# Altium schematic symbol library MCU_Texas_MSP430.SchLib: 361 symbols (part 6 of 9)
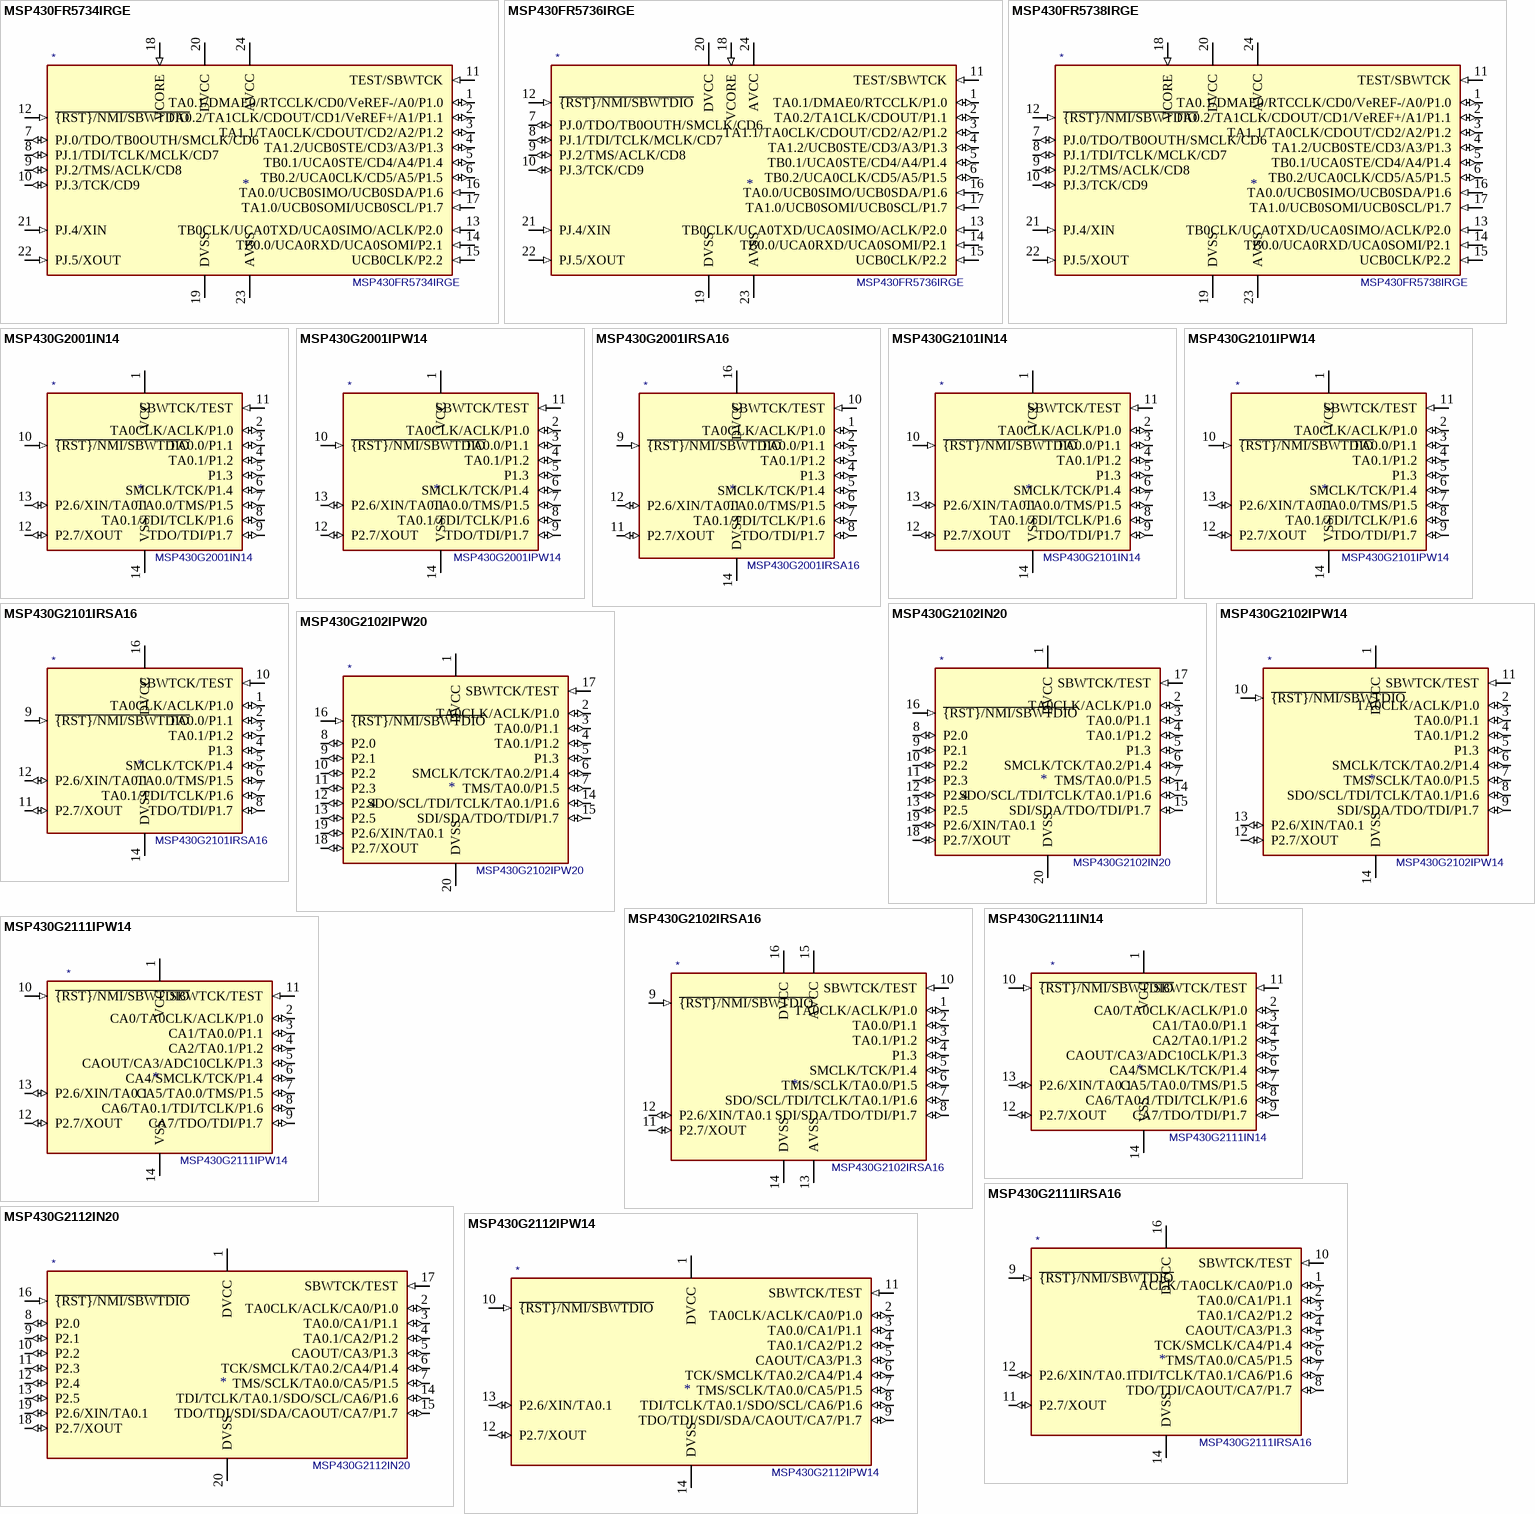
[diagram p39: symbols MSP430FR5734IRGE to MSP430G2112IPW14]

## MSP430G2001IN14
designator *  value MSP430G2001IN14
ki_keywords: TI MSP430 16-bit mixed signal microcontroller; ki_description: 512B Flash, 128B RAM, DIP-14; ki_fp_filters: DIP*W7.62mm*; Footprint: Package_DIP:DIP-14_W7.62mm; Supplier: http://www.ti.com/lit/ds/symlink/msp430g2001.pdf
footprint DIP-14_W7.62mm
pins: 1 VCC (power), 2 TA0CLK/ACLK/P1.0 (io), 3 TA0.0/P1.1 (io), 4 TA0.1/P1.2 (io), 5 P1.3 (io), 6 SMCLK/TCK/P1.4 (io), 7 TA0.0/TMS/P1.5 (io), 8 TA0.1/TDI/TCLK/P1.6 (io), 9 TDO/TDI/P1.7 (io), 10 ~{{RST}/NMI/SBWTDIO} (in), 11 SBWTCK/TEST (in), 12 P2.7/XOUT (io), 13 P2.6/XIN/TA0.1 (io), 14 VSS (power)

## MSP430G2001IPW14
designator *  value MSP430G2001IPW14
ki_keywords: TI MSP430 16-bit mixed signal microcontroller; ki_description: 512B Flash, 128B RAM, TSSOP-14; ki_fp_filters: TSSOP*4.4x5mm*P0.65mm*; Footprint: Package_SO:TSSOP-14_4.4x5mm_P0.65mm; Supplier: http://www.ti.com/lit/ds/symlink/msp430g2001.pdf
footprint TSSOP-14_4.4x5mm_P0.65mm
pins: 1 VCC (power), 2 TA0CLK/ACLK/P1.0 (io), 3 TA0.0/P1.1 (io), 4 TA0.1/P1.2 (io), 5 P1.3 (io), 6 SMCLK/TCK/P1.4 (io), 7 TA0.0/TMS/P1.5 (io), 8 TA0.1/TDI/TCLK/P1.6 (io), 9 TDO/TDI/P1.7 (io), 10 ~{{RST}/NMI/SBWTDIO} (in), 11 SBWTCK/TEST (in), 12 P2.7/XOUT (io), 13 P2.6/XIN/TA0.1 (io), 14 VSS (power)

## MSP430G2001IRSA16
designator *  value MSP430G2001IRSA16
ki_keywords: TI MSP430 16-bit mixed signal microcontroller; ki_description: 512B Flash, 128B RAM, QFN-16; ki_fp_filters: Texas*S?PVQFN*; Footprint: Package_DFN_QFN:Texas_S-PVQFN-N16_EP2.7x2.7mm; Supplier: http://www.ti.com/lit/ds/symlink/msp430g2001.pdf
footprint Texas_S-PVQFN-N16_EP2.7x2.7mm
pins: 1 TA0CLK/ACLK/P1.0 (io), 2 TA0.0/P1.1 (io), 3 TA0.1/P1.2 (io), 4 P1.3 (io), 5 SMCLK/TCK/P1.4 (io), 6 TA0.0/TMS/P1.5 (io), 7 TA0.1/TDI/TCLK/P1.6 (io), 8 TDO/TDI/P1.7 (io), 9 ~{{RST}/NMI/SBWTDIO} (in), 10 SBWTCK/TEST (in), 11 P2.7/XOUT (io), 12 P2.6/XIN/TA0.1 (io), 14 DVSS (power), 16 DVCC (power)

## MSP430G2101IN14
designator *  value MSP430G2101IN14
ki_keywords: TI MSP430 16-bit mixed signal microcontroller; ki_description: 1kB Flash, 128B RAM, DIP-14; ki_fp_filters: DIP*W7.62mm*; Footprint: Package_DIP:DIP-14_W7.62mm; Supplier: http://www.ti.com/lit/ds/symlink/msp430g2101.pdf
footprint DIP-14_W7.62mm
pins: 1 VCC (power), 2 TA0CLK/ACLK/P1.0 (io), 3 TA0.0/P1.1 (io), 4 TA0.1/P1.2 (io), 5 P1.3 (io), 6 SMCLK/TCK/P1.4 (io), 7 TA0.0/TMS/P1.5 (io), 8 TA0.1/TDI/TCLK/P1.6 (io), 9 TDO/TDI/P1.7 (io), 10 ~{{RST}/NMI/SBWTDIO} (in), 11 SBWTCK/TEST (in), 12 P2.7/XOUT (io), 13 P2.6/XIN/TA0.1 (io), 14 VSS (power)

## MSP430G2101IPW14
designator *  value MSP430G2101IPW14
ki_keywords: TI MSP430 16-bit mixed signal microcontroller; ki_description: 1kB Flash, 128B RAM, TSSOP-14; ki_fp_filters: TSSOP*4.4x5mm*P0.65mm*; Footprint: Package_SO:TSSOP-14_4.4x5mm_P0.65mm; Supplier: http://www.ti.com/lit/ds/symlink/msp430g2101.pdf
footprint TSSOP-14_4.4x5mm_P0.65mm
pins: 1 VCC (power), 2 TA0CLK/ACLK/P1.0 (io), 3 TA0.0/P1.1 (io), 4 TA0.1/P1.2 (io), 5 P1.3 (io), 6 SMCLK/TCK/P1.4 (io), 7 TA0.0/TMS/P1.5 (io), 8 TA0.1/TDI/TCLK/P1.6 (io), 9 TDO/TDI/P1.7 (io), 10 ~{{RST}/NMI/SBWTDIO} (in), 11 SBWTCK/TEST (in), 12 P2.7/XOUT (io), 13 P2.6/XIN/TA0.1 (io), 14 VSS (power)

## MSP430G2101IRSA16
designator *  value MSP430G2101IRSA16
ki_keywords: TI MSP430 16-bit mixed signal microcontroller; ki_description: 1kB Flash, 128B RAM, QFN-16; ki_fp_filters: Texas*S?PVQFN*; Footprint: Package_DFN_QFN:Texas_S-PVQFN-N16_EP2.7x2.7mm; Supplier: http://www.ti.com/lit/ds/symlink/msp430g2101.pdf
footprint Texas_S-PVQFN-N16_EP2.7x2.7mm
pins: 1 TA0CLK/ACLK/P1.0 (io), 2 TA0.0/P1.1 (io), 3 TA0.1/P1.2 (io), 4 P1.3 (io), 5 SMCLK/TCK/P1.4 (io), 6 TA0.0/TMS/P1.5 (io), 7 TA0.1/TDI/TCLK/P1.6 (io), 8 TDO/TDI/P1.7 (io), 9 ~{{RST}/NMI/SBWTDIO} (in), 10 SBWTCK/TEST (in), 11 P2.7/XOUT (io), 12 P2.6/XIN/TA0.1 (io), 14 DVSS (power), 16 DVCC (power)

## MSP430G2102IN20
designator *  value MSP430G2102IN20
ki_keywords: TI MSP430 16-bit mixed signal microcontroller; ki_description: 1kB Flash, 128B RAM, DIP-20; ki_fp_filters: DIP*W7.62mm*; Footprint: Package_DIP:DIP-20_W7.62mm; Supplier: http://www.ti.com/lit/ds/symlink/msp430g2102.pdf
footprint DIP-20_W7.62mm
pins: 1 DVCC (power), 2 TA0CLK/ACLK/P1.0 (io), 3 TA0.0/P1.1 (io), 4 TA0.1/P1.2 (io), 5 P1.3 (io), 6 SMCLK/TCK/TA0.2/P1.4 (io), 7 TMS/TA0.0/P1.5 (io), 8 P2.0 (io), 9 P2.1 (io), 10 P2.2 (io), 11 P2.3 (io), 12 P2.4 (io), 13 P2.5 (io), 14 SDO/SCL/TDI/TCLK/TA0.1/P1.6 (io), 15 SDI/SDA/TDO/TDI/P1.7 (io), 16 ~{{RST}/NMI/SBWTDIO} (in), 17 SBWTCK/TEST (in), 18 P2.7/XOUT (io), 19 P2.6/XIN/TA0.1 (io), 20 DVSS (power)

## MSP430G2102IPW14
designator *  value MSP430G2102IPW14
ki_keywords: TI MSP430 16-bit mixed signal microcontroller; ki_description: 1kB Flash, 128B RAM, TSSOP-14; ki_fp_filters: TSSOP*4.4x5mm*P0.65mm*; Footprint: Package_SO:TSSOP-14_4.4x5mm_P0.65mm; Supplier: http://www.ti.com/lit/ds/symlink/msp430g2102.pdf
footprint TSSOP-14_4.4x5mm_P0.65mm
pins: 1 DVCC (power), 2 TA0CLK/ACLK/P1.0 (io), 3 TA0.0/P1.1 (io), 4 TA0.1/P1.2 (io), 5 P1.3 (io), 6 SMCLK/TCK/TA0.2/P1.4 (io), 7 TMS/SCLK/TA0.0/P1.5 (io), 8 SDO/SCL/TDI/TCLK/TA0.1/P1.6 (io), 9 SDI/SDA/TDO/TDI/P1.7 (io), 10 ~{{RST}/NMI/SBWTDIO} (in), 11 SBWTCK/TEST (in), 12 P2.7/XOUT (io), 13 P2.6/XIN/TA0.1 (io), 14 DVSS (power)

## MSP430G2102IPW20
designator *  value MSP430G2102IPW20
ki_keywords: TI MSP430 16-bit mixed signal microcontroller; ki_description: 1kB Flash, 128B RAM, TSSOP-20; ki_fp_filters: TSSOP*4.4x6.5mm*P0.65mm*; Footprint: Package_SO:TSSOP-20_4.4x6.5mm_P0.65mm; Supplier: http://www.ti.com/lit/ds/symlink/msp430g2102.pdf
footprint TSSOP-20_4.4x6.5mm_P0.65mm
pins: 1 DVCC (power), 2 TA0CLK/ACLK/P1.0 (io), 3 TA0.0/P1.1 (io), 4 TA0.1/P1.2 (io), 5 P1.3 (io), 6 SMCLK/TCK/TA0.2/P1.4 (io), 7 TMS/TA0.0/P1.5 (io), 8 P2.0 (io), 9 P2.1 (io), 10 P2.2 (io), 11 P2.3 (io), 12 P2.4 (io), 13 P2.5 (io), 14 SDO/SCL/TDI/TCLK/TA0.1/P1.6 (io), 15 SDI/SDA/TDO/TDI/P1.7 (io), 16 ~{{RST}/NMI/SBWTDIO} (in), 17 SBWTCK/TEST (in), 18 P2.7/XOUT (io), 19 P2.6/XIN/TA0.1 (io), 20 DVSS (power)

## MSP430G2102IRSA16
designator *  value MSP430G2102IRSA16
ki_keywords: TI MSP430 16-bit mixed signal microcontroller; ki_description: 1kB Flash, 128B RAM, QFN-16; ki_fp_filters: Texas*S?PVQFN*; Footprint: Package_DFN_QFN:Texas_S-PVQFN-N16_EP2.7x2.7mm; Supplier: http://www.ti.com/lit/ds/symlink/msp430g2102.pdf
footprint Texas_S-PVQFN-N16_EP2.7x2.7mm
pins: 1 TA0CLK/ACLK/P1.0 (io), 2 TA0.0/P1.1 (io), 3 TA0.1/P1.2 (io), 4 P1.3 (io), 5 SMCLK/TCK/P1.4 (io), 6 TMS/SCLK/TA0.0/P1.5 (io), 7 SDO/SCL/TDI/TCLK/TA0.1/P1.6 (io), 8 SDI/SDA/TDO/TDI/P1.7 (io), 9 ~{{RST}/NMI/SBWTDIO} (in), 10 SBWTCK/TEST (in), 11 P2.7/XOUT (io), 12 P2.6/XIN/TA0.1 (io), 13 AVSS (power), 14 DVSS (power), 15 AVCC (power), 16 DVCC (power)

## MSP430G2111IN14
designator *  value MSP430G2111IN14
ki_keywords: TI MSP430 16-bit mixed signal microcontroller; ki_description: 1kB Flash, 128B RAM, DIP-14; ki_fp_filters: TSSOP*4.4x5mm*P0.65mm*; Footprint: Package_SO:TSSOP-14_4.4x5mm_P0.65mm; Supplier: http://www.ti.com/lit/ds/symlink/msp430g2111.pdf
footprint TSSOP-14_4.4x5mm_P0.65mm
pins: 1 VCC (power), 2 CA0/TA0CLK/ACLK/P1.0 (io), 3 CA1/TA0.0/P1.1 (io), 4 CA2/TA0.1/P1.2 (io), 5 CAOUT/CA3/ADC10CLK/P1.3 (io), 6 CA4/SMCLK/TCK/P1.4 (io), 7 CA5/TA0.0/TMS/P1.5 (io), 8 CA6/TA0.1/TDI/TCLK/P1.6 (io), 9 CA7/TDO/TDI/P1.7 (io), 10 ~{{RST}/NMI/SBWTDIO} (in), 11 SBWTCK/TEST (in), 12 P2.7/XOUT (io), 13 P2.6/XIN/TA0.1 (io), 14 VSS (power)

## MSP430G2111IPW14
designator *  value MSP430G2111IPW14
ki_keywords: TI MSP430 16-bit mixed signal microcontroller; ki_description: 1kB Flash, 128B RAM, TSSOP-14; ki_fp_filters: TSSOP*4.4x5mm*P0.65mm*; Footprint: Package_SO:TSSOP-14_4.4x5mm_P0.65mm; Supplier: http://www.ti.com/lit/ds/symlink/msp430g2111.pdf
footprint TSSOP-14_4.4x5mm_P0.65mm
pins: 1 VCC (power), 2 CA0/TA0CLK/ACLK/P1.0 (io), 3 CA1/TA0.0/P1.1 (io), 4 CA2/TA0.1/P1.2 (io), 5 CAOUT/CA3/ADC10CLK/P1.3 (io), 6 CA4/SMCLK/TCK/P1.4 (io), 7 CA5/TA0.0/TMS/P1.5 (io), 8 CA6/TA0.1/TDI/TCLK/P1.6 (io), 9 CA7/TDO/TDI/P1.7 (io), 10 ~{{RST}/NMI/SBWTDIO} (in), 11 SBWTCK/TEST (in), 12 P2.7/XOUT (io), 13 P2.6/XIN/TA0.1 (io), 14 VSS (power)

## MSP430G2111IRSA16
designator *  value MSP430G2111IRSA16
ki_keywords: TI MSP430 16-bit mixed signal microcontroller; ki_description: 1kB Flash, 128B RAM, QFN-16; ki_fp_filters: Texas*S?PVQFN*; Footprint: Package_DFN_QFN:Texas_S-PVQFN-N16_EP2.7x2.7mm; Supplier: http://www.ti.com/lit/ds/symlink/msp430g2111.pdf
footprint Texas_S-PVQFN-N16_EP2.7x2.7mm
pins: 1 ACLK/TA0CLK/CA0/P1.0 (io), 2 TA0.0/CA1/P1.1 (io), 3 TA0.1/CA2/P1.2 (io), 4 CAOUT/CA3/P1.3 (io), 5 TCK/SMCLK/CA4/P1.4 (io), 6 TMS/TA0.0/CA5/P1.5 (io), 7 TDI/TCLK/TA0.1/CA6/P1.6 (io), 8 TDO/TDI/CAOUT/CA7/P1.7 (io), 9 ~{{RST}/NMI/SBWTDIO} (in), 10 SBWTCK/TEST (in), 11 P2.7/XOUT (io), 12 P2.6/XIN/TA0.1 (io), 14 DVSS (power), 16 DVCC (power)

## MSP430G2112IN20
designator *  value MSP430G2112IN20
ki_keywords: TI MSP430 16-bit mixed signal microcontroller; ki_description: 1kB Flash, 128B RAM, DIP-20; ki_fp_filters: DIP*W7.62mm*; Footprint: Package_DIP:DIP-20_W7.62mm; Supplier: http://www.ti.com/lit/ds/symlink/msp430g2112.pdf
footprint DIP-20_W7.62mm
pins: 1 DVCC (power), 2 TA0CLK/ACLK/CA0/P1.0 (io), 3 TA0.0/CA1/P1.1 (io), 4 TA0.1/CA2/P1.2 (io), 5 CAOUT/CA3/P1.3 (io), 6 TCK/SMCLK/TA0.2/CA4/P1.4 (io), 7 TMS/SCLK/TA0.0/CA5/P1.5 (io), 8 P2.0 (io), 9 P2.1 (io), 10 P2.2 (io), 11 P2.3 (io), 12 P2.4 (io), 13 P2.5 (io), 14 TDI/TCLK/TA0.1/SDO/SCL/CA6/P1.6 (io), 15 TDO/TDI/SDI/SDA/CAOUT/CA7/P1.7 (io), 16 ~{{RST}/NMI/SBWTDIO} (in), 17 SBWTCK/TEST (in), 18 P2.7/XOUT (io), 19 P2.6/XIN/TA0.1 (io), 20 DVSS (power)

## MSP430G2112IPW14
designator *  value MSP430G2112IPW14
ki_keywords: TI MSP430 16-bit mixed signal microcontroller; ki_description: 1kB Flash, 128B RAM, TSSOP-14; ki_fp_filters: TSSOP*4.4x5mm*P0.65mm*; Footprint: Package_SO:TSSOP-14_4.4x5mm_P0.65mm; Supplier: http://www.ti.com/lit/ds/symlink/msp430g2112.pdf
footprint TSSOP-14_4.4x5mm_P0.65mm
pins: 1 DVCC (power), 2 TA0CLK/ACLK/CA0/P1.0 (io), 3 TA0.0/CA1/P1.1 (io), 4 TA0.1/CA2/P1.2 (io), 5 CAOUT/CA3/P1.3 (io), 6 TCK/SMCLK/TA0.2/CA4/P1.4 (io), 7 TMS/SCLK/TA0.0/CA5/P1.5 (io), 8 TDI/TCLK/TA0.1/SDO/SCL/CA6/P1.6 (io), 9 TDO/TDI/SDI/SDA/CAOUT/CA7/P1.7 (io), 10 ~{{RST}/NMI/SBWTDIO} (in), 11 SBWTCK/TEST (in), 12 P2.7/XOUT (io), 13 P2.6/XIN/TA0.1 (io), 14 DVSS (power)

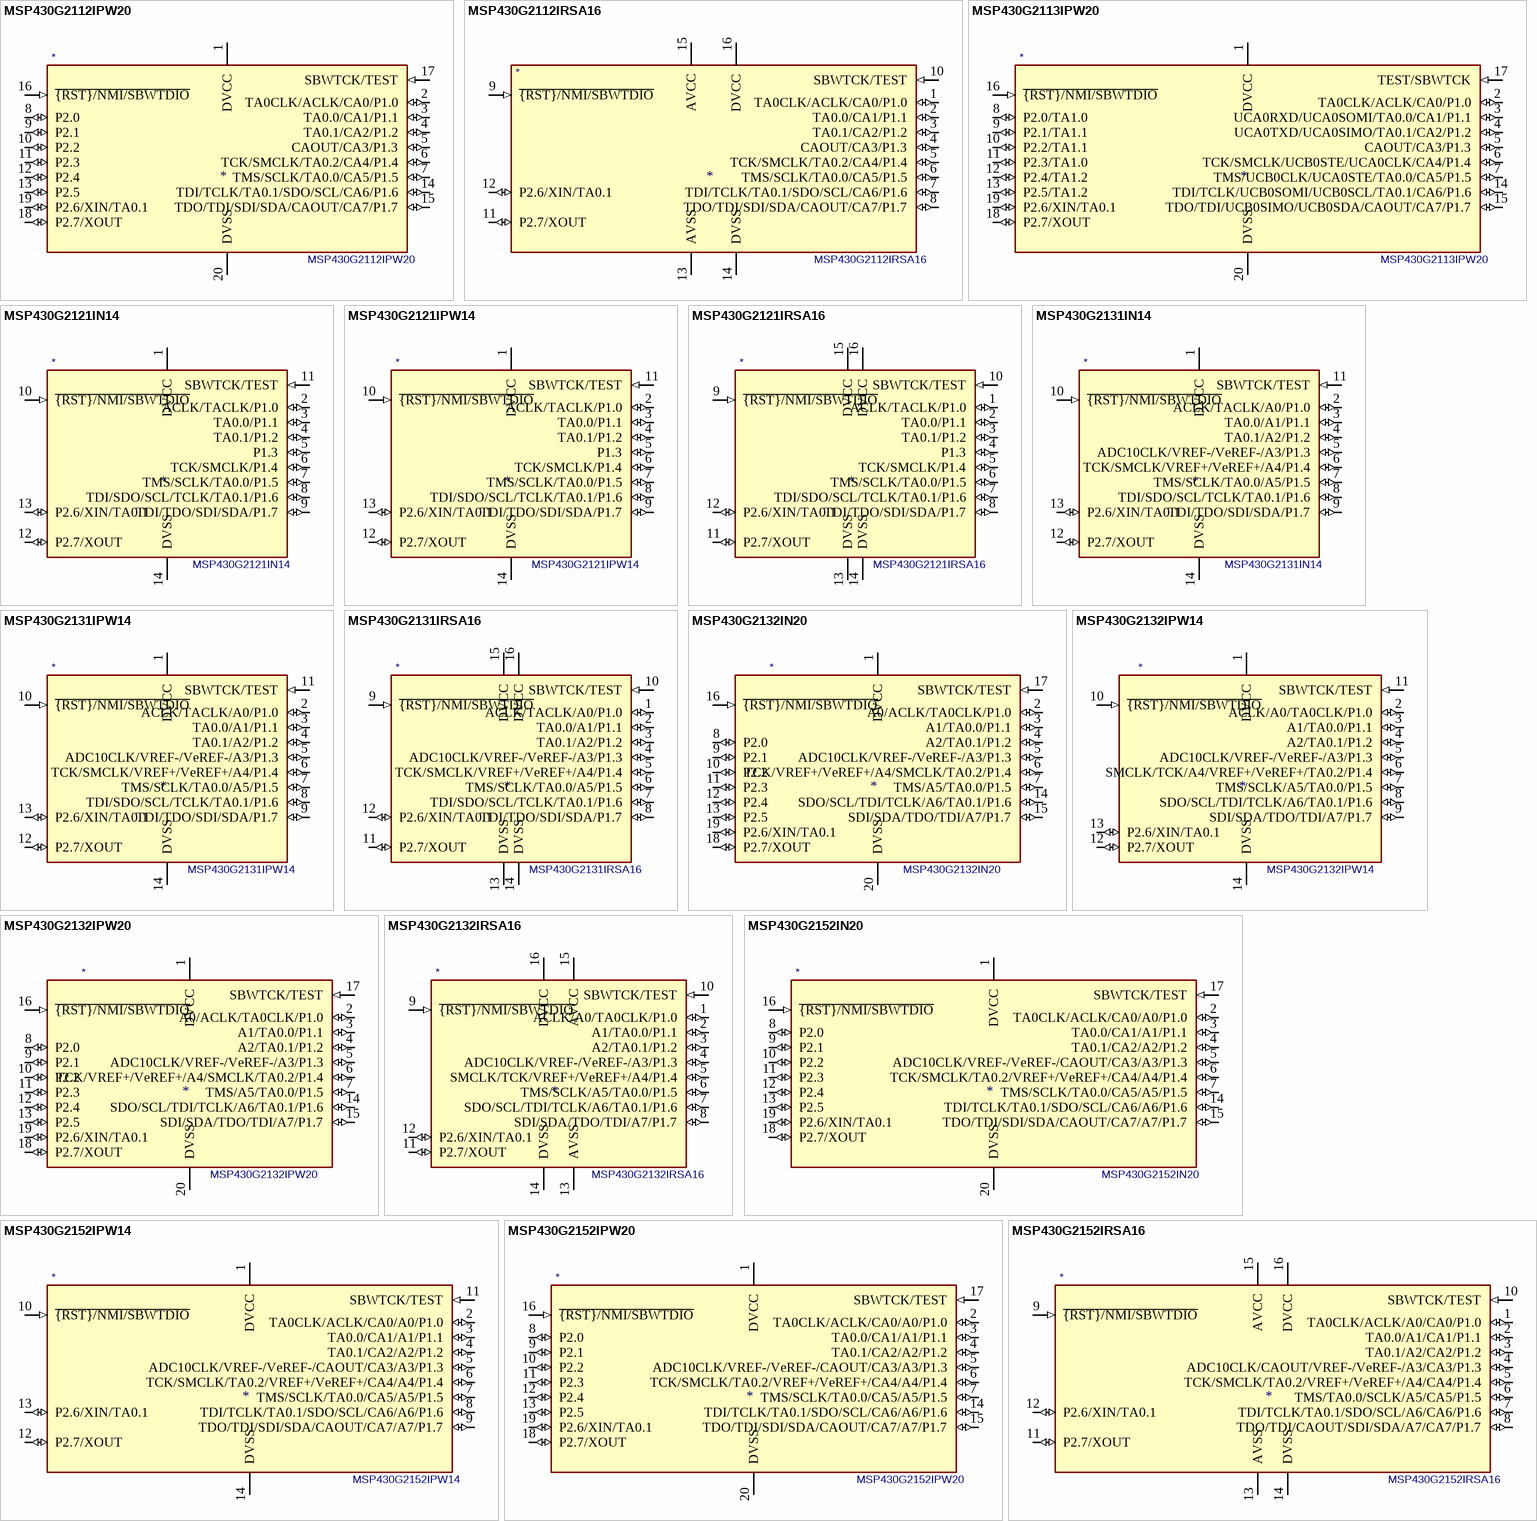
[diagram p22: symbols MSP430G2112IPW20 to MSP430G2152IRSA16]

## MSP430G2112IPW20
designator *  value MSP430G2112IPW20
ki_keywords: TI MSP430 16-bit mixed signal microcontroller; ki_description: 1kB Flash, 128B RAM, TSSOP-20; ki_fp_filters: TSSOP*4.4x6.5mm*P0.65mm*; Footprint: Package_SO:TSSOP-20_4.4x6.5mm_P0.65mm; Supplier: http://www.ti.com/lit/ds/symlink/msp430g2112.pdf
footprint TSSOP-20_4.4x6.5mm_P0.65mm
pins: 1 DVCC (power), 2 TA0CLK/ACLK/CA0/P1.0 (io), 3 TA0.0/CA1/P1.1 (io), 4 TA0.1/CA2/P1.2 (io), 5 CAOUT/CA3/P1.3 (io), 6 TCK/SMCLK/TA0.2/CA4/P1.4 (io), 7 TMS/SCLK/TA0.0/CA5/P1.5 (io), 8 P2.0 (io), 9 P2.1 (io), 10 P2.2 (io), 11 P2.3 (io), 12 P2.4 (io), 13 P2.5 (io), 14 TDI/TCLK/TA0.1/SDO/SCL/CA6/P1.6 (io), 15 TDO/TDI/SDI/SDA/CAOUT/CA7/P1.7 (io), 16 ~{{RST}/NMI/SBWTDIO} (in), 17 SBWTCK/TEST (in), 18 P2.7/XOUT (io), 19 P2.6/XIN/TA0.1 (io), 20 DVSS (power)

## MSP430G2112IRSA16
designator *  value MSP430G2112IRSA16
ki_keywords: TI MSP430 16-bit mixed signal microcontroller; ki_description: 1kB Flash, 128B RAM, QFN-16; ki_fp_filters: Texas*S?PVQFN*; Footprint: Package_DFN_QFN:Texas_S-PVQFN-N16_EP2.7x2.7mm; Supplier: http://www.ti.com/lit/ds/symlink/msp430g2112.pdf
footprint Texas_S-PVQFN-N16_EP2.7x2.7mm
pins: 1 TA0CLK/ACLK/CA0/P1.0 (io), 2 TA0.0/CA1/P1.1 (io), 3 TA0.1/CA2/P1.2 (io), 4 CAOUT/CA3/P1.3 (io), 5 TCK/SMCLK/TA0.2/CA4/P1.4 (io), 6 TMS/SCLK/TA0.0/CA5/P1.5 (io), 7 TDI/TCLK/TA0.1/SDO/SCL/CA6/P1.6 (io), 8 TDO/TDI/SDI/SDA/CAOUT/CA7/P1.7 (io), 9 ~{{RST}/NMI/SBWTDIO} (in), 10 SBWTCK/TEST (in), 11 P2.7/XOUT (io), 12 P2.6/XIN/TA0.1 (io), 13 AVSS (power), 14 DVSS (power), 15 AVCC (power), 16 DVCC (power)

## MSP430G2113IPW20
designator *  value MSP430G2113IPW20
ki_keywords: TI MSP430 16-bit mixed signal microcontroller; ki_description: 1kB Flash, 256B RAM, TSSOP-20; ki_fp_filters: TSSOP*4.4x6.5mm*P0.65mm*; Footprint: Package_SO:TSSOP-20_4.4x6.5mm_P0.65mm; Supplier: http://www.ti.com/lit/ds/symlink/msp430g2153.pdf
footprint TSSOP-20_4.4x6.5mm_P0.65mm
pins: 1 DVCC (power), 2 TA0CLK/ACLK/CA0/P1.0 (io), 3 UCA0RXD/UCA0SOMI/TA0.0/CA1/P1.1 (io), 4 UCA0TXD/UCA0SIMO/TA0.1/CA2/P1.2 (io), 5 CAOUT/CA3/P1.3 (io), 6 TCK/SMCLK/UCB0STE/UCA0CLK/CA4/P1.4 (io), 7 TMS/UCB0CLK/UCA0STE/TA0.0/CA5/P1.5 (io), 8 P2.0/TA1.0 (io), 9 P2.1/TA1.1 (io), 10 P2.2/TA1.1 (io), 11 P2.3/TA1.0 (io), 12 P2.4/TA1.2 (io), 13 P2.5/TA1.2 (io), 14 TDI/TCLK/UCB0SOMI/UCB0SCL/TA0.1/CA6/P1.6 (io), 15 TDO/TDI/UCB0SIMO/UCB0SDA/CAOUT/CA7/P1.7 (io), 16 ~{{RST}/NMI/SBWTDIO} (in), 17 TEST/SBWTCK (in), 18 P2.7/XOUT (io), 19 P2.6/XIN/TA0.1 (io), 20 DVSS (power)

## MSP430G2121IN14
designator *  value MSP430G2121IN14
ki_keywords: TI MSP430 16-bit mixed signal microcontroller; ki_description: 1kB Flash, 128B RAM, DIP-14; ki_fp_filters: TSSOP*4.4x5mm*P0.65mm*; Footprint: Package_SO:TSSOP-14_4.4x5mm_P0.65mm; Supplier: http://www.ti.com/lit/ds/symlink/msp430g2121.pdf
footprint TSSOP-14_4.4x5mm_P0.65mm
pins: 1 DVCC (power), 2 ACLK/TACLK/P1.0 (io), 3 TA0.0/P1.1 (io), 4 TA0.1/P1.2 (io), 5 P1.3 (io), 6 TCK/SMCLK/P1.4 (io), 7 TMS/SCLK/TA0.0/P1.5 (io), 8 TDI/SDO/SCL/TCLK/TA0.1/P1.6 (io), 9 TDI/TDO/SDI/SDA/P1.7 (io), 10 ~{{RST}/NMI/SBWTDIO} (in), 11 SBWTCK/TEST (in), 12 P2.7/XOUT (io), 13 P2.6/XIN/TA0.1 (io), 14 DVSS (power)

## MSP430G2121IPW14
designator *  value MSP430G2121IPW14
ki_keywords: TI MSP430 16-bit mixed signal microcontroller; ki_description: 1kB Flash, 128B RAM, TSSOP-14; ki_fp_filters: TSSOP*4.4x5mm*P0.65mm*; Footprint: Package_SO:TSSOP-14_4.4x5mm_P0.65mm; Supplier: http://www.ti.com/lit/ds/symlink/msp430g2121.pdf
footprint TSSOP-14_4.4x5mm_P0.65mm
pins: 1 DVCC (power), 2 ACLK/TACLK/P1.0 (io), 3 TA0.0/P1.1 (io), 4 TA0.1/P1.2 (io), 5 P1.3 (io), 6 TCK/SMCLK/P1.4 (io), 7 TMS/SCLK/TA0.0/P1.5 (io), 8 TDI/SDO/SCL/TCLK/TA0.1/P1.6 (io), 9 TDI/TDO/SDI/SDA/P1.7 (io), 10 ~{{RST}/NMI/SBWTDIO} (in), 11 SBWTCK/TEST (in), 12 P2.7/XOUT (io), 13 P2.6/XIN/TA0.1 (io), 14 DVSS (power)

## MSP430G2121IRSA16
designator *  value MSP430G2121IRSA16
ki_keywords: TI MSP430 16-bit mixed signal microcontroller; ki_description: 1kB Flash, 128B RAM, QFN-16; ki_fp_filters: Texas*S?PVQFN*; Footprint: Package_DFN_QFN:Texas_S-PVQFN-N16_EP2.7x2.7mm; Supplier: http://www.ti.com/lit/ds/symlink/msp430g2121.pdf
footprint Texas_S-PVQFN-N16_EP2.7x2.7mm
pins: 1 ACLK/TACLK/P1.0 (io), 2 TA0.0/P1.1 (io), 3 TA0.1/P1.2 (io), 4 P1.3 (io), 5 TCK/SMCLK/P1.4 (io), 6 TMS/SCLK/TA0.0/P1.5 (io), 7 TDI/SDO/SCL/TCLK/TA0.1/P1.6 (io), 8 TDI/TDO/SDI/SDA/P1.7 (io), 9 ~{{RST}/NMI/SBWTDIO} (in), 10 SBWTCK/TEST (in), 11 P2.7/XOUT (io), 12 P2.6/XIN/TA0.1 (io), 13 DVSS (power), 14 DVSS (power), 15 DVCC (power), 16 DVCC (power)

## MSP430G2131IN14
designator *  value MSP430G2131IN14
ki_keywords: TI MSP430 16-bit mixed signal microcontroller; ki_description: 1kB Flash, 128B RAM, DIP-14; ki_fp_filters: TSSOP*4.4x5mm*P0.65mm*; Footprint: Package_SO:TSSOP-14_4.4x5mm_P0.65mm; Supplier: http://www.ti.com/lit/ds/symlink/msp430g2131.pdf
footprint TSSOP-14_4.4x5mm_P0.65mm
pins: 1 DVCC (power), 2 ACLK/TACLK/A0/P1.0 (io), 3 TA0.0/A1/P1.1 (io), 4 TA0.1/A2/P1.2 (io), 5 ADC10CLK/VREF-/VeREF-/A3/P1.3 (io), 6 TCK/SMCLK/VREF+/VeREF+/A4/P1.4 (io), 7 TMS/SCLK/TA0.0/A5/P1.5 (io), 8 TDI/SDO/SCL/TCLK/TA0.1/P1.6 (io), 9 TDI/TDO/SDI/SDA/P1.7 (io), 10 ~{{RST}/NMI/SBWTDIO} (in), 11 SBWTCK/TEST (in), 12 P2.7/XOUT (io), 13 P2.6/XIN/TA0.1 (io), 14 DVSS (power)

## MSP430G2131IPW14
designator *  value MSP430G2131IPW14
ki_keywords: TI MSP430 16-bit mixed signal microcontroller; ki_description: 1kB Flash, 128B RAM, TSSOP-14; ki_fp_filters: TSSOP*4.4x5mm*P0.65mm*; Footprint: Package_SO:TSSOP-14_4.4x5mm_P0.65mm; Supplier: http://www.ti.com/lit/ds/symlink/msp430g2131.pdf
footprint TSSOP-14_4.4x5mm_P0.65mm
pins: 1 DVCC (power), 2 ACLK/TACLK/A0/P1.0 (io), 3 TA0.0/A1/P1.1 (io), 4 TA0.1/A2/P1.2 (io), 5 ADC10CLK/VREF-/VeREF-/A3/P1.3 (io), 6 TCK/SMCLK/VREF+/VeREF+/A4/P1.4 (io), 7 TMS/SCLK/TA0.0/A5/P1.5 (io), 8 TDI/SDO/SCL/TCLK/TA0.1/P1.6 (io), 9 TDI/TDO/SDI/SDA/P1.7 (io), 10 ~{{RST}/NMI/SBWTDIO} (in), 11 SBWTCK/TEST (in), 12 P2.7/XOUT (io), 13 P2.6/XIN/TA0.1 (io), 14 DVSS (power)

## MSP430G2131IRSA16
designator *  value MSP430G2131IRSA16
ki_keywords: TI MSP430 16-bit mixed signal microcontroller; ki_description: 1kB Flash, 128B RAM, QFN-16; ki_fp_filters: Texas*S?PVQFN*; Footprint: Package_DFN_QFN:Texas_S-PVQFN-N16_EP2.7x2.7mm; Supplier: http://www.ti.com/lit/ds/symlink/msp430g2131.pdf
footprint Texas_S-PVQFN-N16_EP2.7x2.7mm
pins: 1 ACLK/TACLK/A0/P1.0 (io), 2 TA0.0/A1/P1.1 (io), 3 TA0.1/A2/P1.2 (io), 4 ADC10CLK/VREF-/VeREF-/A3/P1.3 (io), 5 TCK/SMCLK/VREF+/VeREF+/A4/P1.4 (io), 6 TMS/SCLK/TA0.0/A5/P1.5 (io), 7 TDI/SDO/SCL/TCLK/TA0.1/P1.6 (io), 8 TDI/TDO/SDI/SDA/P1.7 (io), 9 ~{{RST}/NMI/SBWTDIO} (in), 10 SBWTCK/TEST (in), 11 P2.7/XOUT (io), 12 P2.6/XIN/TA0.1 (io), 13 DVSS (power), 14 DVSS (power), 15 DVCC (power), 16 DVCC (power)

## MSP430G2132IN20
designator *  value MSP430G2132IN20
ki_keywords: TI MSP430 16-bit mixed signal microcontroller; ki_description: 1kB Flash, 128B RAM, DIP-20; ki_fp_filters: DIP*W7.62mm*; Footprint: Package_DIP:DIP-20_W7.62mm; Supplier: http://www.ti.com/lit/ds/symlink/msp430g2132.pdf
footprint DIP-20_W7.62mm
pins: 1 DVCC (power), 2 A0/ACLK/TA0CLK/P1.0 (io), 3 A1/TA0.0/P1.1 (io), 4 A2/TA0.1/P1.2 (io), 5 ADC10CLK/VREF-/VeREF-/A3/P1.3 (io), 6 TCK/VREF+/VeREF+/A4/SMCLK/TA0.2/P1.4 (io), 7 TMS/A5/TA0.0/P1.5 (io), 8 P2.0 (io), 9 P2.1 (io), 10 P2.2 (io), 11 P2.3 (io), 12 P2.4 (io), 13 P2.5 (io), 14 SDO/SCL/TDI/TCLK/A6/TA0.1/P1.6 (io), 15 SDI/SDA/TDO/TDI/A7/P1.7 (io), 16 ~{{RST}/NMI/SBWTDIO} (in), 17 SBWTCK/TEST (in), 18 P2.7/XOUT (io), 19 P2.6/XIN/TA0.1 (io), 20 DVSS (power)

## MSP430G2132IPW14
designator *  value MSP430G2132IPW14
ki_keywords: TI MSP430 16-bit mixed signal microcontroller; ki_description: 1kB Flash, 128B RAM, TSSOP-14; ki_fp_filters: TSSOP*4.4x5mm*P0.65mm*; Footprint: Package_SO:TSSOP-14_4.4x5mm_P0.65mm; Supplier: http://www.ti.com/lit/ds/symlink/msp430g2132.pdf
footprint TSSOP-14_4.4x5mm_P0.65mm
pins: 1 DVCC (power), 2 ACLK/A0/TA0CLK/P1.0 (io), 3 A1/TA0.0/P1.1 (io), 4 A2/TA0.1/P1.2 (io), 5 ADC10CLK/VREF-/VeREF-/A3/P1.3 (io), 6 SMCLK/TCK/A4/VREF+/VeREF+/TA0.2/P1.4 (io), 7 TMS/SCLK/A5/TA0.0/P1.5 (io), 8 SDO/SCL/TDI/TCLK/A6/TA0.1/P1.6 (io), 9 SDI/SDA/TDO/TDI/A7/P1.7 (io), 10 ~{{RST}/NMI/SBWTDIO} (in), 11 SBWTCK/TEST (in), 12 P2.7/XOUT (io), 13 P2.6/XIN/TA0.1 (io), 14 DVSS (power)

## MSP430G2132IPW20
designator *  value MSP430G2132IPW20
ki_keywords: TI MSP430 16-bit mixed signal microcontroller; ki_description: 1kB Flash, 128B RAM, TSSOP-20; ki_fp_filters: TSSOP*4.4x6.5mm*P0.65mm*; Footprint: Package_SO:TSSOP-20_4.4x6.5mm_P0.65mm; Supplier: http://www.ti.com/lit/ds/symlink/msp430g2132.pdf
footprint TSSOP-20_4.4x6.5mm_P0.65mm
pins: 1 DVCC (power), 2 A0/ACLK/TA0CLK/P1.0 (io), 3 A1/TA0.0/P1.1 (io), 4 A2/TA0.1/P1.2 (io), 5 ADC10CLK/VREF-/VeREF-/A3/P1.3 (io), 6 TCK/VREF+/VeREF+/A4/SMCLK/TA0.2/P1.4 (io), 7 TMS/A5/TA0.0/P1.5 (io), 8 P2.0 (io), 9 P2.1 (io), 10 P2.2 (io), 11 P2.3 (io), 12 P2.4 (io), 13 P2.5 (io), 14 SDO/SCL/TDI/TCLK/A6/TA0.1/P1.6 (io), 15 SDI/SDA/TDO/TDI/A7/P1.7 (io), 16 ~{{RST}/NMI/SBWTDIO} (in), 17 SBWTCK/TEST (in), 18 P2.7/XOUT (io), 19 P2.6/XIN/TA0.1 (io), 20 DVSS (power)

## MSP430G2132IRSA16
designator *  value MSP430G2132IRSA16
ki_keywords: TI MSP430 16-bit mixed signal microcontroller; ki_description: 1kB Flash, 128B RAM, QFN-16; ki_fp_filters: Texas*S?PVQFN*; Footprint: Package_DFN_QFN:Texas_S-PVQFN-N16_EP2.7x2.7mm; Supplier: http://www.ti.com/lit/ds/symlink/msp430g2132.pdf
footprint Texas_S-PVQFN-N16_EP2.7x2.7mm
pins: 1 ACLK/A0/TA0CLK/P1.0 (io), 2 A1/TA0.0/P1.1 (io), 3 A2/TA0.1/P1.2 (io), 4 ADC10CLK/VREF-/VeREF-/A3/P1.3 (io), 5 SMCLK/TCK/VREF+/VeREF+/A4/P1.4 (io), 6 TMS/SCLK/A5/TA0.0/P1.5 (io), 7 SDO/SCL/TDI/TCLK/A6/TA0.1/P1.6 (io), 8 SDI/SDA/TDO/TDI/A7/P1.7 (io), 9 ~{{RST}/NMI/SBWTDIO} (in), 10 SBWTCK/TEST (in), 11 P2.7/XOUT (io), 12 P2.6/XIN/TA0.1 (io), 13 AVSS (power), 14 DVSS (power), 15 AVCC (power), 16 DVCC (power)

## MSP430G2152IN20
designator *  value MSP430G2152IN20
ki_keywords: TI MSP430 16-bit mixed signal microcontroller; ki_description: 1kB Flash, 128B RAM, DIP-20; ki_fp_filters: DIP*W7.62mm*; Footprint: Package_DIP:DIP-20_W7.62mm; Supplier: http://www.ti.com/lit/ds/symlink/msp430g2152.pdf
footprint DIP-20_W7.62mm
pins: 1 DVCC (power), 2 TA0CLK/ACLK/CA0/A0/P1.0 (io), 3 TA0.0/CA1/A1/P1.1 (io), 4 TA0.1/CA2/A2/P1.2 (io), 5 ADC10CLK/VREF-/VeREF-/CAOUT/CA3/A3/P1.3 (io), 6 TCK/SMCLK/TA0.2/VREF+/VeREF+/CA4/A4/P1.4 (io), 7 TMS/SCLK/TA0.0/CA5/A5/P1.5 (io), 8 P2.0 (io), 9 P2.1 (io), 10 P2.2 (io), 11 P2.3 (io), 12 P2.4 (io), 13 P2.5 (io), 14 TDI/TCLK/TA0.1/SDO/SCL/CA6/A6/P1.6 (io), 15 TDO/TDI/SDI/SDA/CAOUT/CA7/A7/P1.7 (io), 16 ~{{RST}/NMI/SBWTDIO} (in), 17 SBWTCK/TEST (in), 18 P2.7/XOUT (io), 19 P2.6/XIN/TA0.1 (io), 20 DVSS (power)

## MSP430G2152IPW14
designator *  value MSP430G2152IPW14
ki_keywords: TI MSP430 16-bit mixed signal microcontroller; ki_description: 1kB Flash, 128B RAM, TSSOP-14; ki_fp_filters: TSSOP*4.4x5mm*P0.65mm*; Footprint: Package_SO:TSSOP-14_4.4x5mm_P0.65mm; Supplier: http://www.ti.com/lit/ds/symlink/msp430g2152.pdf
footprint TSSOP-14_4.4x5mm_P0.65mm
pins: 1 DVCC (power), 2 TA0CLK/ACLK/CA0/A0/P1.0 (io), 3 TA0.0/CA1/A1/P1.1 (io), 4 TA0.1/CA2/A2/P1.2 (io), 5 ADC10CLK/VREF-/VeREF-/CAOUT/CA3/A3/P1.3 (io), 6 TCK/SMCLK/TA0.2/VREF+/VeREF+/CA4/A4/P1.4 (io), 7 TMS/SCLK/TA0.0/CA5/A5/P1.5 (io), 8 TDI/TCLK/TA0.1/SDO/SCL/CA6/A6/P1.6 (io), 9 TDO/TDI/SDI/SDA/CAOUT/CA7/A7/P1.7 (io), 10 ~{{RST}/NMI/SBWTDIO} (in), 11 SBWTCK/TEST (in), 12 P2.7/XOUT (io), 13 P2.6/XIN/TA0.1 (io), 14 DVSS (power)

## MSP430G2152IPW20
designator *  value MSP430G2152IPW20
ki_keywords: TI MSP430 16-bit mixed signal microcontroller; ki_description: 1kB Flash, 128B RAM, TSSOP-20; ki_fp_filters: TSSOP*4.4x6.5mm*P0.65mm*; Footprint: Package_SO:TSSOP-20_4.4x6.5mm_P0.65mm; Supplier: http://www.ti.com/lit/ds/symlink/msp430g2152.pdf
footprint TSSOP-20_4.4x6.5mm_P0.65mm
pins: 1 DVCC (power), 2 TA0CLK/ACLK/CA0/A0/P1.0 (io), 3 TA0.0/CA1/A1/P1.1 (io), 4 TA0.1/CA2/A2/P1.2 (io), 5 ADC10CLK/VREF-/VeREF-/CAOUT/CA3/A3/P1.3 (io), 6 TCK/SMCLK/TA0.2/VREF+/VeREF+/CA4/A4/P1.4 (io), 7 TMS/SCLK/TA0.0/CA5/A5/P1.5 (io), 8 P2.0 (io), 9 P2.1 (io), 10 P2.2 (io), 11 P2.3 (io), 12 P2.4 (io), 13 P2.5 (io), 14 TDI/TCLK/TA0.1/SDO/SCL/CA6/A6/P1.6 (io), 15 TDO/TDI/SDI/SDA/CAOUT/CA7/A7/P1.7 (io), 16 ~{{RST}/NMI/SBWTDIO} (in), 17 SBWTCK/TEST (in), 18 P2.7/XOUT (io), 19 P2.6/XIN/TA0.1 (io), 20 DVSS (power)

## MSP430G2152IRSA16
designator *  value MSP430G2152IRSA16
ki_keywords: TI MSP430 16-bit mixed signal microcontroller; ki_description: 1kB Flash, 128B RAM, QFN-16; ki_fp_filters: Texas*S?PVQFN*; Footprint: Package_DFN_QFN:Texas_S-PVQFN-N16_EP2.7x2.7mm; Supplier: http://www.ti.com/lit/ds/symlink/msp430g2152.pdf
footprint Texas_S-PVQFN-N16_EP2.7x2.7mm
pins: 1 TA0CLK/ACLK/A0/CA0/P1.0 (io), 2 TA0.0/A1/CA1/P1.1 (io), 3 TA0.1/A2/CA2/P1.2 (io), 4 ADC10CLK/CAOUT/VREF-/VeREF-/A3/CA3/P1.3 (io), 5 TCK/SMCLK/TA0.2/VREF+/VeREF+/A4/CA4/P1.4 (io), 6 TMS/TA0.0/SCLK/A5/CA5/P1.5 (io), 7 TDI/TCLK/TA0.1/SDO/SCL/A6/CA6/P1.6 (io), 8 TDO/TDI/CAOUT/SDI/SDA/A7/CA7/P1.7 (io), 9 ~{{RST}/NMI/SBWTDIO} (in), 10 SBWTCK/TEST (in), 11 P2.7/XOUT (io), 12 P2.6/XIN/TA0.1 (io), 13 AVSS (power), 14 DVSS (power), 15 AVCC (power), 16 DVCC (power)

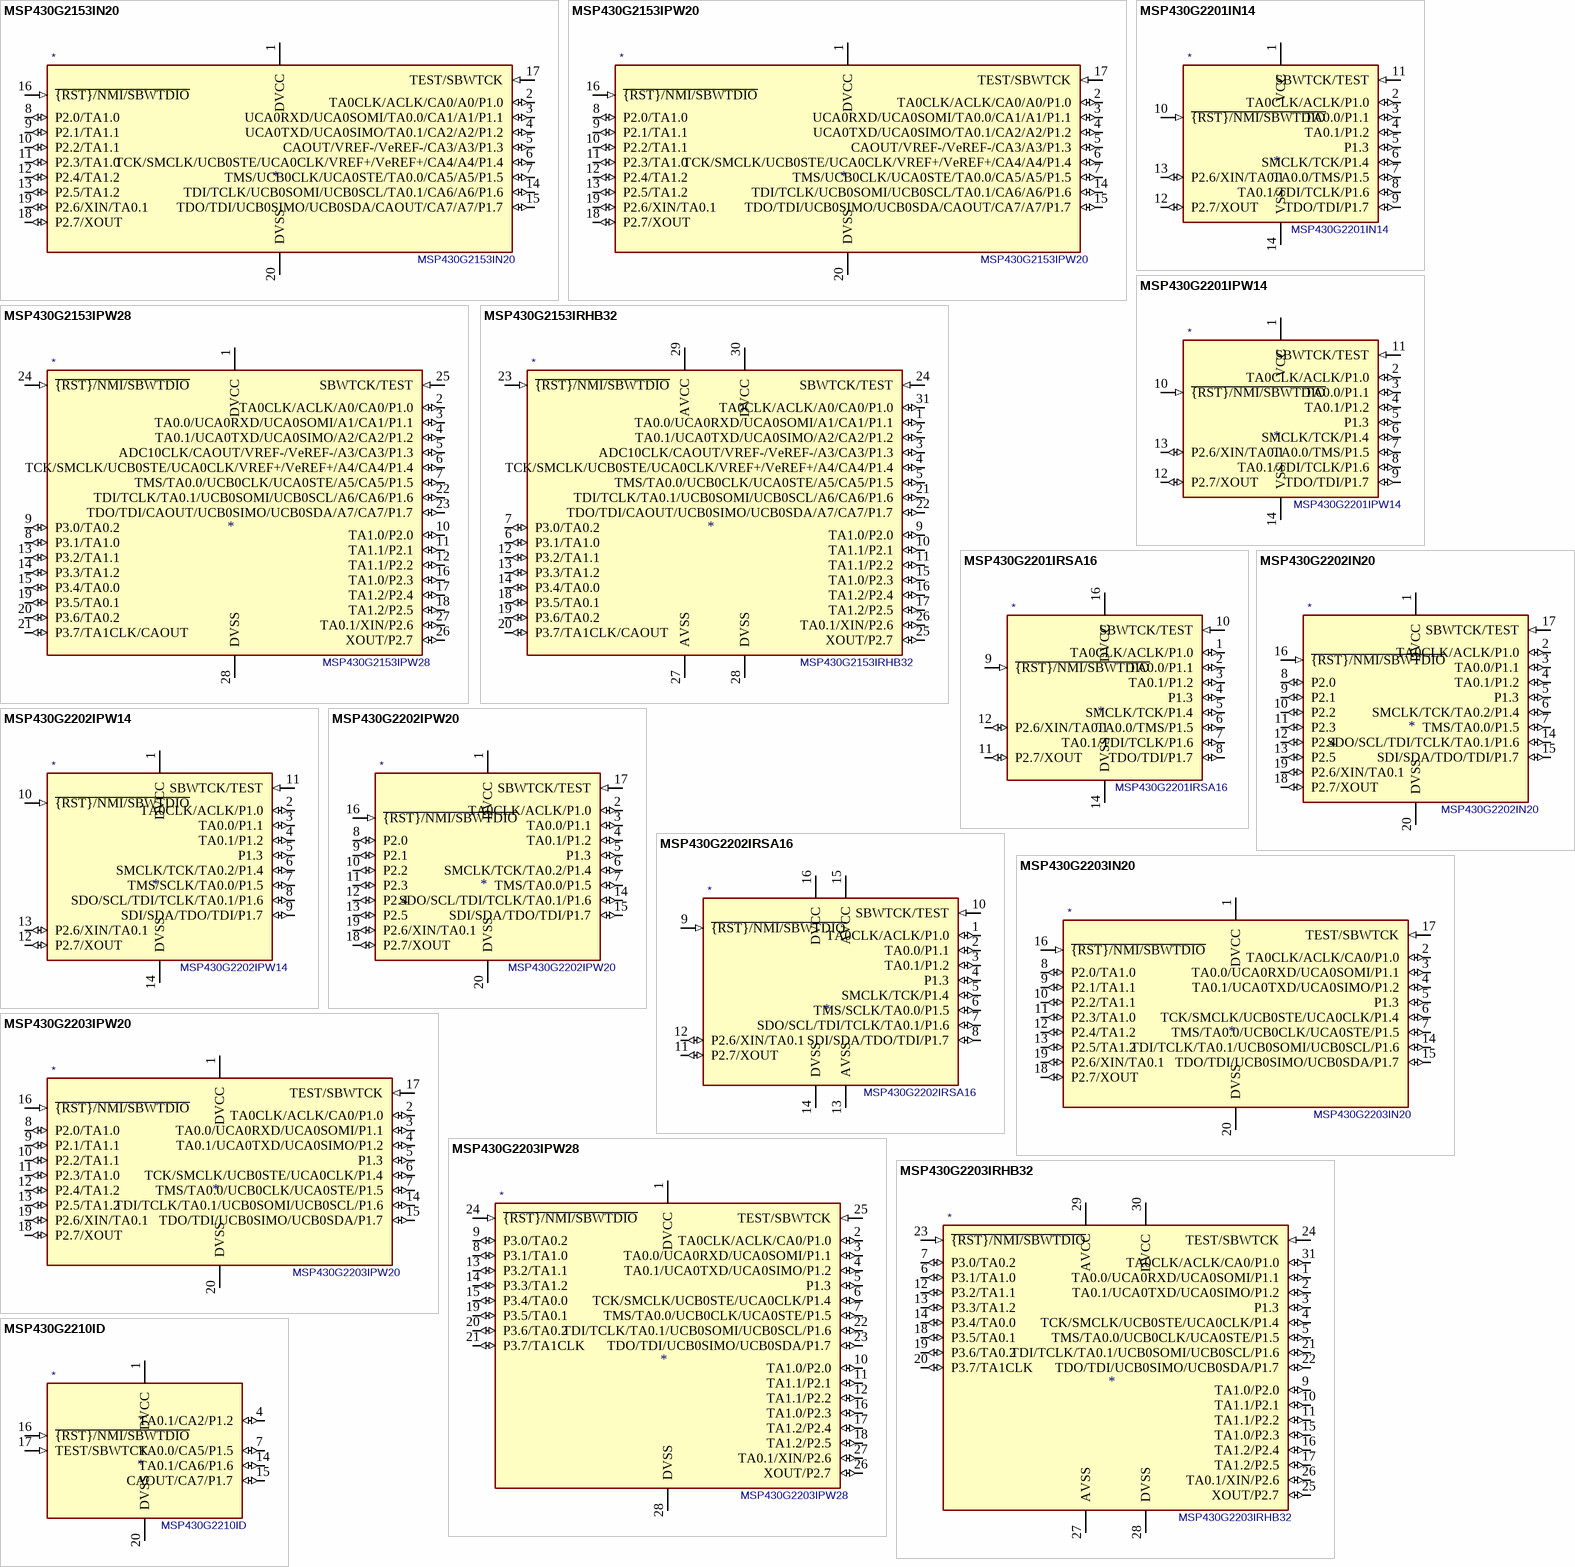
[diagram p23: symbols MSP430G2153IN20 to MSP430G2210ID]

## MSP430G2153IN20
designator *  value MSP430G2153IN20
ki_keywords: TI MSP430 16-bit mixed signal microcontroller; ki_description: 1kB Flash, 256B RAM, DIP-20; ki_fp_filters: DIP*W7.62mm*; Footprint: Package_DIP:DIP-20_W7.62mm; Supplier: http://www.ti.com/lit/ds/symlink/msp430g2153.pdf
footprint DIP-20_W7.62mm
pins: 1 DVCC (power), 2 TA0CLK/ACLK/CA0/A0/P1.0 (io), 3 UCA0RXD/UCA0SOMI/TA0.0/CA1/A1/P1.1 (io), 4 UCA0TXD/UCA0SIMO/TA0.1/CA2/A2/P1.2 (io), 5 CAOUT/VREF-/VeREF-/CA3/A3/P1.3 (io), 6 TCK/SMCLK/UCB0STE/UCA0CLK/VREF+/VeREF+/CA4/A4/P1.4 (io), 7 TMS/UCB0CLK/UCA0STE/TA0.0/CA5/A5/P1.5 (io), 8 P2.0/TA1.0 (io), 9 P2.1/TA1.1 (io), 10 P2.2/TA1.1 (io), 11 P2.3/TA1.0 (io), 12 P2.4/TA1.2 (io), 13 P2.5/TA1.2 (io), 14 TDI/TCLK/UCB0SOMI/UCB0SCL/TA0.1/CA6/A6/P1.6 (io), 15 TDO/TDI/UCB0SIMO/UCB0SDA/CAOUT/CA7/A7/P1.7 (io), 16 ~{{RST}/NMI/SBWTDIO} (in), 17 TEST/SBWTCK (in), 18 P2.7/XOUT (io), 19 P2.6/XIN/TA0.1 (io), 20 DVSS (power)

## MSP430G2153IPW20
designator *  value MSP430G2153IPW20
ki_keywords: TI MSP430 16-bit mixed signal microcontroller; ki_description: 1kB Flash, 256B RAM, TSSOP-20; ki_fp_filters: TSSOP*4.4x6.5mm*P0.65mm*; Footprint: Package_SO:TSSOP-20_4.4x6.5mm_P0.65mm; Supplier: http://www.ti.com/lit/ds/symlink/msp430g2153.pdf
footprint TSSOP-20_4.4x6.5mm_P0.65mm
pins: 1 DVCC (power), 2 TA0CLK/ACLK/CA0/A0/P1.0 (io), 3 UCA0RXD/UCA0SOMI/TA0.0/CA1/A1/P1.1 (io), 4 UCA0TXD/UCA0SIMO/TA0.1/CA2/A2/P1.2 (io), 5 CAOUT/VREF-/VeREF-/CA3/A3/P1.3 (io), 6 TCK/SMCLK/UCB0STE/UCA0CLK/VREF+/VeREF+/CA4/A4/P1.4 (io), 7 TMS/UCB0CLK/UCA0STE/TA0.0/CA5/A5/P1.5 (io), 8 P2.0/TA1.0 (io), 9 P2.1/TA1.1 (io), 10 P2.2/TA1.1 (io), 11 P2.3/TA1.0 (io), 12 P2.4/TA1.2 (io), 13 P2.5/TA1.2 (io), 14 TDI/TCLK/UCB0SOMI/UCB0SCL/TA0.1/CA6/A6/P1.6 (io), 15 TDO/TDI/UCB0SIMO/UCB0SDA/CAOUT/CA7/A7/P1.7 (io), 16 ~{{RST}/NMI/SBWTDIO} (in), 17 TEST/SBWTCK (in), 18 P2.7/XOUT (io), 19 P2.6/XIN/TA0.1 (io), 20 DVSS (power)

## MSP430G2153IPW28
designator *  value MSP430G2153IPW28
ki_keywords: TI MSP430 16-bit mixed signal microcontroller; ki_description: 1kB Flash, 256B RAM, TSSOP-28; ki_fp_filters: TSSOP*4.4x9.7mm*P0.65mm*; Footprint: Package_SO:TSSOP-28_4.4x9.7mm_P0.65mm; Supplier: http://www.ti.com/lit/ds/symlink/msp430g2153.pdf
footprint TSSOP-28_4.4x9.7mm_P0.65mm
pins: 1 DVCC (power), 2 TA0CLK/ACLK/A0/CA0/P1.0 (io), 3 TA0.0/UCA0RXD/UCA0SOMI/A1/CA1/P1.1 (io), 4 TA0.1/UCA0TXD/UCA0SIMO/A2/CA2/P1.2 (io), 5 ADC10CLK/CAOUT/VREF-/VeREF-/A3/CA3/P1.3 (io), 6 TCK/SMCLK/UCB0STE/UCA0CLK/VREF+/VeREF+/A4/CA4/P1.4 (io), 7 TMS/TA0.0/UCB0CLK/UCA0STE/A5/CA5/P1.5 (io), 8 P3.1/TA1.0 (io), 9 P3.0/TA0.2 (io), 10 TA1.0/P2.0 (io), 11 TA1.1/P2.1 (io), 12 TA1.1/P2.2 (io), 13 P3.2/TA1.1 (io), 14 P3.3/TA1.2 (io), 15 P3.4/TA0.0 (io), 16 TA1.0/P2.3 (io), 17 TA1.2/P2.4 (io), 18 TA1.2/P2.5 (io), 19 P3.5/TA0.1 (io), 20 P3.6/TA0.2 (io), 21 P3.7/TA1CLK/CAOUT (io), 22 TDI/TCLK/TA0.1/UCB0SOMI/UCB0SCL/A6/CA6/P1.6 (io), 23 TDO/TDI/CAOUT/UCB0SIMO/UCB0SDA/A7/CA7/P1.7 (io), 24 ~{{RST}/NMI/SBWTDIO} (in), 25 SBWTCK/TEST (in), 26 XOUT/P2.7 (io), 27 TA0.1/XIN/P2.6 (io), 28 DVSS (power)

## MSP430G2153IRHB32
designator *  value MSP430G2153IRHB32
ki_keywords: TI MSP430 16-bit mixed signal microcontroller; ki_description: 1kB Flash, 256B RAM, QFN-32; ki_fp_filters: Texas*S?PVQFN*; Footprint: Package_DFN_QFN:Texas_S-PVQFN-N32_EP3.45x3.45mm; Supplier: http://www.ti.com/lit/ds/symlink/msp430g2153.pdf
footprint Texas_S-PVQFN-N32_EP3.45x3.45mm
pins: 1 TA0.0/UCA0RXD/UCA0SOMI/A1/CA1/P1.1 (io), 2 TA0.1/UCA0TXD/UCA0SIMO/A2/CA2/P1.2 (io), 3 ADC10CLK/CAOUT/VREF-/VeREF-/A3/CA3/P1.3 (io), 4 TCK/SMCLK/UCB0STE/UCA0CLK/VREF+/VeREF+/A4/CA4/P1.4 (io), 5 TMS/TA0.0/UCB0CLK/UCA0STE/A5/CA5/P1.5 (io), 6 P3.1/TA1.0 (io), 7 P3.0/TA0.2 (io), 9 TA1.0/P2.0 (io), 10 TA1.1/P2.1 (io), 11 TA1.1/P2.2 (io), 12 P3.2/TA1.1 (io), 13 P3.3/TA1.2 (io), 14 P3.4/TA0.0 (io), 15 TA1.0/P2.3 (io), 16 TA1.2/P2.4 (io), 17 TA1.2/P2.5 (io), 18 P3.5/TA0.1 (io), 19 P3.6/TA0.2 (io), 20 P3.7/TA1CLK/CAOUT (io), 21 TDI/TCLK/TA0.1/UCB0SOMI/UCB0SCL/A6/CA6/P1.6 (io), 22 TDO/TDI/CAOUT/UCB0SIMO/UCB0SDA/A7/CA7/P1.7 (io), 23 ~{{RST}/NMI/SBWTDIO} (in), 24 SBWTCK/TEST (in), 25 XOUT/P2.7 (io), 26 TA0.1/XIN/P2.6 (io), 27 AVSS (power), 28 DVSS (power), 29 AVCC (power), 30 DVCC (power), 31 TA0CLK/ACLK/A0/CA0/P1.0 (io)

## MSP430G2201IN14
designator *  value MSP430G2201IN14
ki_keywords: TI MSP430 16-bit mixed signal microcontroller; ki_description: 2kB Flash, 128B RAM, DIP-14; ki_fp_filters: DIP*W7.62mm*; Footprint: Package_DIP:DIP-14_W7.62mm; Supplier: http://www.ti.com/lit/ds/symlink/msp430g2201.pdf
footprint DIP-14_W7.62mm
pins: 1 VCC (power), 2 TA0CLK/ACLK/P1.0 (io), 3 TA0.0/P1.1 (io), 4 TA0.1/P1.2 (io), 5 P1.3 (io), 6 SMCLK/TCK/P1.4 (io), 7 TA0.0/TMS/P1.5 (io), 8 TA0.1/TDI/TCLK/P1.6 (io), 9 TDO/TDI/P1.7 (io), 10 ~{{RST}/NMI/SBWTDIO} (in), 11 SBWTCK/TEST (in), 12 P2.7/XOUT (io), 13 P2.6/XIN/TA0.1 (io), 14 VSS (power)

## MSP430G2201IPW14
designator *  value MSP430G2201IPW14
ki_keywords: TI MSP430 16-bit mixed signal microcontroller; ki_description: 2kB Flash, 128B RAM, TSSOP-14; ki_fp_filters: TSSOP*4.4x5mm*P0.65mm*; Footprint: Package_SO:TSSOP-14_4.4x5mm_P0.65mm; Supplier: http://www.ti.com/lit/ds/symlink/msp430g2201.pdf
footprint TSSOP-14_4.4x5mm_P0.65mm
pins: 1 VCC (power), 2 TA0CLK/ACLK/P1.0 (io), 3 TA0.0/P1.1 (io), 4 TA0.1/P1.2 (io), 5 P1.3 (io), 6 SMCLK/TCK/P1.4 (io), 7 TA0.0/TMS/P1.5 (io), 8 TA0.1/TDI/TCLK/P1.6 (io), 9 TDO/TDI/P1.7 (io), 10 ~{{RST}/NMI/SBWTDIO} (in), 11 SBWTCK/TEST (in), 12 P2.7/XOUT (io), 13 P2.6/XIN/TA0.1 (io), 14 VSS (power)

## MSP430G2201IRSA16
designator *  value MSP430G2201IRSA16
ki_keywords: TI MSP430 16-bit mixed signal microcontroller; ki_description: 2kB Flash, 128B RAM, QFN-16; ki_fp_filters: Texas*S?PVQFN*; Footprint: Package_DFN_QFN:Texas_S-PVQFN-N16_EP2.7x2.7mm; Supplier: http://www.ti.com/lit/ds/symlink/msp430g2201.pdf
footprint Texas_S-PVQFN-N16_EP2.7x2.7mm
pins: 1 TA0CLK/ACLK/P1.0 (io), 2 TA0.0/P1.1 (io), 3 TA0.1/P1.2 (io), 4 P1.3 (io), 5 SMCLK/TCK/P1.4 (io), 6 TA0.0/TMS/P1.5 (io), 7 TA0.1/TDI/TCLK/P1.6 (io), 8 TDO/TDI/P1.7 (io), 9 ~{{RST}/NMI/SBWTDIO} (in), 10 SBWTCK/TEST (in), 11 P2.7/XOUT (io), 12 P2.6/XIN/TA0.1 (io), 14 DVSS (power), 16 DVCC (power)

## MSP430G2202IN20
designator *  value MSP430G2202IN20
ki_keywords: TI MSP430 16-bit mixed signal microcontroller; ki_description: 2kB Flash, 256B RAM, DIP-20; ki_fp_filters: DIP*W7.62mm*; Footprint: Package_DIP:DIP-20_W7.62mm; Supplier: http://www.ti.com/lit/ds/symlink/msp430g2202.pdf
footprint DIP-20_W7.62mm
pins: 1 DVCC (power), 2 TA0CLK/ACLK/P1.0 (io), 3 TA0.0/P1.1 (io), 4 TA0.1/P1.2 (io), 5 P1.3 (io), 6 SMCLK/TCK/TA0.2/P1.4 (io), 7 TMS/TA0.0/P1.5 (io), 8 P2.0 (io), 9 P2.1 (io), 10 P2.2 (io), 11 P2.3 (io), 12 P2.4 (io), 13 P2.5 (io), 14 SDO/SCL/TDI/TCLK/TA0.1/P1.6 (io), 15 SDI/SDA/TDO/TDI/P1.7 (io), 16 ~{{RST}/NMI/SBWTDIO} (in), 17 SBWTCK/TEST (in), 18 P2.7/XOUT (io), 19 P2.6/XIN/TA0.1 (io), 20 DVSS (power)

## MSP430G2202IPW14
designator *  value MSP430G2202IPW14
ki_keywords: TI MSP430 16-bit mixed signal microcontroller; ki_description: 2kB Flash, 256B RAM, TSSOP-14; ki_fp_filters: TSSOP*4.4x5mm*P0.65mm*; Footprint: Package_SO:TSSOP-14_4.4x5mm_P0.65mm; Supplier: http://www.ti.com/lit/ds/symlink/msp430g2202.pdf
footprint TSSOP-14_4.4x5mm_P0.65mm
pins: 1 DVCC (power), 2 TA0CLK/ACLK/P1.0 (io), 3 TA0.0/P1.1 (io), 4 TA0.1/P1.2 (io), 5 P1.3 (io), 6 SMCLK/TCK/TA0.2/P1.4 (io), 7 TMS/SCLK/TA0.0/P1.5 (io), 8 SDO/SCL/TDI/TCLK/TA0.1/P1.6 (io), 9 SDI/SDA/TDO/TDI/P1.7 (io), 10 ~{{RST}/NMI/SBWTDIO} (in), 11 SBWTCK/TEST (in), 12 P2.7/XOUT (io), 13 P2.6/XIN/TA0.1 (io), 14 DVSS (power)

## MSP430G2202IPW20
designator *  value MSP430G2202IPW20
ki_keywords: TI MSP430 16-bit mixed signal microcontroller; ki_description: 2kB Flash, 256B RAM, TSSOP-20; ki_fp_filters: TSSOP*4.4x6.5mm*P0.65mm*; Footprint: Package_SO:TSSOP-20_4.4x6.5mm_P0.65mm; Supplier: http://www.ti.com/lit/ds/symlink/msp430g2202.pdf
footprint TSSOP-20_4.4x6.5mm_P0.65mm
pins: 1 DVCC (power), 2 TA0CLK/ACLK/P1.0 (io), 3 TA0.0/P1.1 (io), 4 TA0.1/P1.2 (io), 5 P1.3 (io), 6 SMCLK/TCK/TA0.2/P1.4 (io), 7 TMS/TA0.0/P1.5 (io), 8 P2.0 (io), 9 P2.1 (io), 10 P2.2 (io), 11 P2.3 (io), 12 P2.4 (io), 13 P2.5 (io), 14 SDO/SCL/TDI/TCLK/TA0.1/P1.6 (io), 15 SDI/SDA/TDO/TDI/P1.7 (io), 16 ~{{RST}/NMI/SBWTDIO} (in), 17 SBWTCK/TEST (in), 18 P2.7/XOUT (io), 19 P2.6/XIN/TA0.1 (io), 20 DVSS (power)

## MSP430G2202IRSA16
designator *  value MSP430G2202IRSA16
ki_keywords: TI MSP430 16-bit mixed signal microcontroller; ki_description: 2kB Flash, 256B RAM, QFN-16; ki_fp_filters: Texas*S?PVQFN*; Footprint: Package_DFN_QFN:Texas_S-PVQFN-N16_EP2.7x2.7mm; Supplier: http://www.ti.com/lit/ds/symlink/msp430g2202.pdf
footprint Texas_S-PVQFN-N16_EP2.7x2.7mm
pins: 1 TA0CLK/ACLK/P1.0 (io), 2 TA0.0/P1.1 (io), 3 TA0.1/P1.2 (io), 4 P1.3 (io), 5 SMCLK/TCK/P1.4 (io), 6 TMS/SCLK/TA0.0/P1.5 (io), 7 SDO/SCL/TDI/TCLK/TA0.1/P1.6 (io), 8 SDI/SDA/TDO/TDI/P1.7 (io), 9 ~{{RST}/NMI/SBWTDIO} (in), 10 SBWTCK/TEST (in), 11 P2.7/XOUT (io), 12 P2.6/XIN/TA0.1 (io), 13 AVSS (power), 14 DVSS (power), 15 AVCC (power), 16 DVCC (power)

## MSP430G2203IN20
designator *  value MSP430G2203IN20
ki_keywords: TI MSP430 16-bit mixed signal microcontroller; ki_description: 2kB Flash, 256B RAM, DIP-20; ki_fp_filters: DIP*W7.62mm*; Footprint: Package_DIP:DIP-20_W7.62mm; Supplier: http://www.ti.com/lit/ds/symlink/msp430g2203.pdf
footprint DIP-20_W7.62mm
pins: 1 DVCC (power), 2 TA0CLK/ACLK/CA0/P1.0 (io), 3 TA0.0/UCA0RXD/UCA0SOMI/P1.1 (io), 4 TA0.1/UCA0TXD/UCA0SIMO/P1.2 (io), 5 P1.3 (io), 6 TCK/SMCLK/UCB0STE/UCA0CLK/P1.4 (io), 7 TMS/TA0.0/UCB0CLK/UCA0STE/P1.5 (io), 8 P2.0/TA1.0 (io), 9 P2.1/TA1.1 (io), 10 P2.2/TA1.1 (io), 11 P2.3/TA1.0 (io), 12 P2.4/TA1.2 (io), 13 P2.5/TA1.2 (io), 14 TDI/TCLK/TA0.1/UCB0SOMI/UCB0SCL/P1.6 (io), 15 TDO/TDI/UCB0SIMO/UCB0SDA/P1.7 (io), 16 ~{{RST}/NMI/SBWTDIO} (in), 17 TEST/SBWTCK (in), 18 P2.7/XOUT (io), 19 P2.6/XIN/TA0.1 (io), 20 DVSS (power)

## MSP430G2203IPW20
designator *  value MSP430G2203IPW20
ki_keywords: TI MSP430 16-bit mixed signal microcontroller; ki_description: 2kB Flash, 256B RAM, TSSOP-20; ki_fp_filters: TSSOP*4.4x6.5mm*P0.65mm*; Footprint: Package_SO:TSSOP-20_4.4x6.5mm_P0.65mm; Supplier: http://www.ti.com/lit/ds/symlink/msp430g2203.pdf
footprint TSSOP-20_4.4x6.5mm_P0.65mm
pins: 1 DVCC (power), 2 TA0CLK/ACLK/CA0/P1.0 (io), 3 TA0.0/UCA0RXD/UCA0SOMI/P1.1 (io), 4 TA0.1/UCA0TXD/UCA0SIMO/P1.2 (io), 5 P1.3 (io), 6 TCK/SMCLK/UCB0STE/UCA0CLK/P1.4 (io), 7 TMS/TA0.0/UCB0CLK/UCA0STE/P1.5 (io), 8 P2.0/TA1.0 (io), 9 P2.1/TA1.1 (io), 10 P2.2/TA1.1 (io), 11 P2.3/TA1.0 (io), 12 P2.4/TA1.2 (io), 13 P2.5/TA1.2 (io), 14 TDI/TCLK/TA0.1/UCB0SOMI/UCB0SCL/P1.6 (io), 15 TDO/TDI/UCB0SIMO/UCB0SDA/P1.7 (io), 16 ~{{RST}/NMI/SBWTDIO} (in), 17 TEST/SBWTCK (in), 18 P2.7/XOUT (io), 19 P2.6/XIN/TA0.1 (io), 20 DVSS (power)

## MSP430G2203IPW28
designator *  value MSP430G2203IPW28
ki_keywords: TI MSP430 16-bit mixed signal microcontroller; ki_description: 2kB Flash, 256B RAM, TSSOP-28; ki_fp_filters: TSSOP*4.4x9.7mm*P0.65mm*; Footprint: Package_SO:TSSOP-28_4.4x9.7mm_P0.65mm; Supplier: http://www.ti.com/lit/ds/symlink/msp430g2203.pdf
footprint TSSOP-28_4.4x9.7mm_P0.65mm
pins: 1 DVCC (power), 2 TA0CLK/ACLK/CA0/P1.0 (io), 3 TA0.0/UCA0RXD/UCA0SOMI/P1.1 (io), 4 TA0.1/UCA0TXD/UCA0SIMO/P1.2 (io), 5 P1.3 (io), 6 TCK/SMCLK/UCB0STE/UCA0CLK/P1.4 (io), 7 TMS/TA0.0/UCB0CLK/UCA0STE/P1.5 (io), 8 P3.1/TA1.0 (io), 9 P3.0/TA0.2 (io), 10 TA1.0/P2.0 (io), 11 TA1.1/P2.1 (io), 12 TA1.1/P2.2 (io), 13 P3.2/TA1.1 (io), 14 P3.3/TA1.2 (io), 15 P3.4/TA0.0 (io), 16 TA1.0/P2.3 (io), 17 TA1.2/P2.4 (io), 18 TA1.2/P2.5 (io), 19 P3.5/TA0.1 (io), 20 P3.6/TA0.2 (io), 21 P3.7/TA1CLK (io), 22 TDI/TCLK/TA0.1/UCB0SOMI/UCB0SCL/P1.6 (io), 23 TDO/TDI/UCB0SIMO/UCB0SDA/P1.7 (io), 24 ~{{RST}/NMI/SBWTDIO} (in), 25 TEST/SBWTCK (in), 26 XOUT/P2.7 (io), 27 TA0.1/XIN/P2.6 (io), 28 DVSS (power)

## MSP430G2203IRHB32
designator *  value MSP430G2203IRHB32
ki_keywords: TI MSP430 16-bit mixed signal microcontroller; ki_description: 2kB Flash, 256B RAM, QFN-32; ki_fp_filters: Texas*S?PVQFN*; Footprint: Package_DFN_QFN:Texas_S-PVQFN-N32_EP3.45x3.45mm; Supplier: http://www.ti.com/lit/ds/symlink/msp430g2203.pdf
footprint Texas_S-PVQFN-N32_EP3.45x3.45mm
pins: 1 TA0.0/UCA0RXD/UCA0SOMI/P1.1 (io), 2 TA0.1/UCA0TXD/UCA0SIMO/P1.2 (io), 3 P1.3 (io), 4 TCK/SMCLK/UCB0STE/UCA0CLK/P1.4 (io), 5 TMS/TA0.0/UCB0CLK/UCA0STE/P1.5 (io), 6 P3.1/TA1.0 (io), 7 P3.0/TA0.2 (io), 9 TA1.0/P2.0 (io), 10 TA1.1/P2.1 (io), 11 TA1.1/P2.2 (io), 12 P3.2/TA1.1 (io), 13 P3.3/TA1.2 (io), 14 P3.4/TA0.0 (io), 15 TA1.0/P2.3 (io), 16 TA1.2/P2.4 (io), 17 TA1.2/P2.5 (io), 18 P3.5/TA0.1 (io), 19 P3.6/TA0.2 (io), 20 P3.7/TA1CLK (io), 21 TDI/TCLK/TA0.1/UCB0SOMI/UCB0SCL/P1.6 (io), 22 TDO/TDI/UCB0SIMO/UCB0SDA/P1.7 (io), 23 ~{{RST}/NMI/SBWTDIO} (in), 24 TEST/SBWTCK (in), 25 XOUT/P2.7 (io), 26 TA0.1/XIN/P2.6 (io), 27 AVSS (power), 28 DVSS (power), 29 AVCC (power), 30 DVCC (power), 31 TA0CLK/ACLK/CA0/P1.0 (io)

## MSP430G2210ID
designator *  value MSP430G2210ID
ki_keywords: TI MSP430 16-bit mixed signal microcontroller; ki_description: 2kB + 256B Flash, 128B RAM, SOIC-8; ki_fp_filters: SOIC*3.9x4.9mm*P1.27mm*; Footprint: Package_SO:SOIC-8_3.9x4.9mm_P1.27mm; Supplier: http://www.ti.com/lit/ds/symlink/msp430g2210.pdf
footprint SOIC-8_3.9x4.9mm_P1.27mm
pins: 1 DVCC (power), 4 TA0.1/CA2/P1.2 (io), 7 TA0.0/CA5/P1.5 (io), 14 TA0.1/CA6/P1.6 (io), 15 CAOUT/CA7/P1.7 (io), 16 ~{{RST}/NMI/SBWTDIO} (in), 17 TEST/SBWTCK (in), 20 DVSS (power)

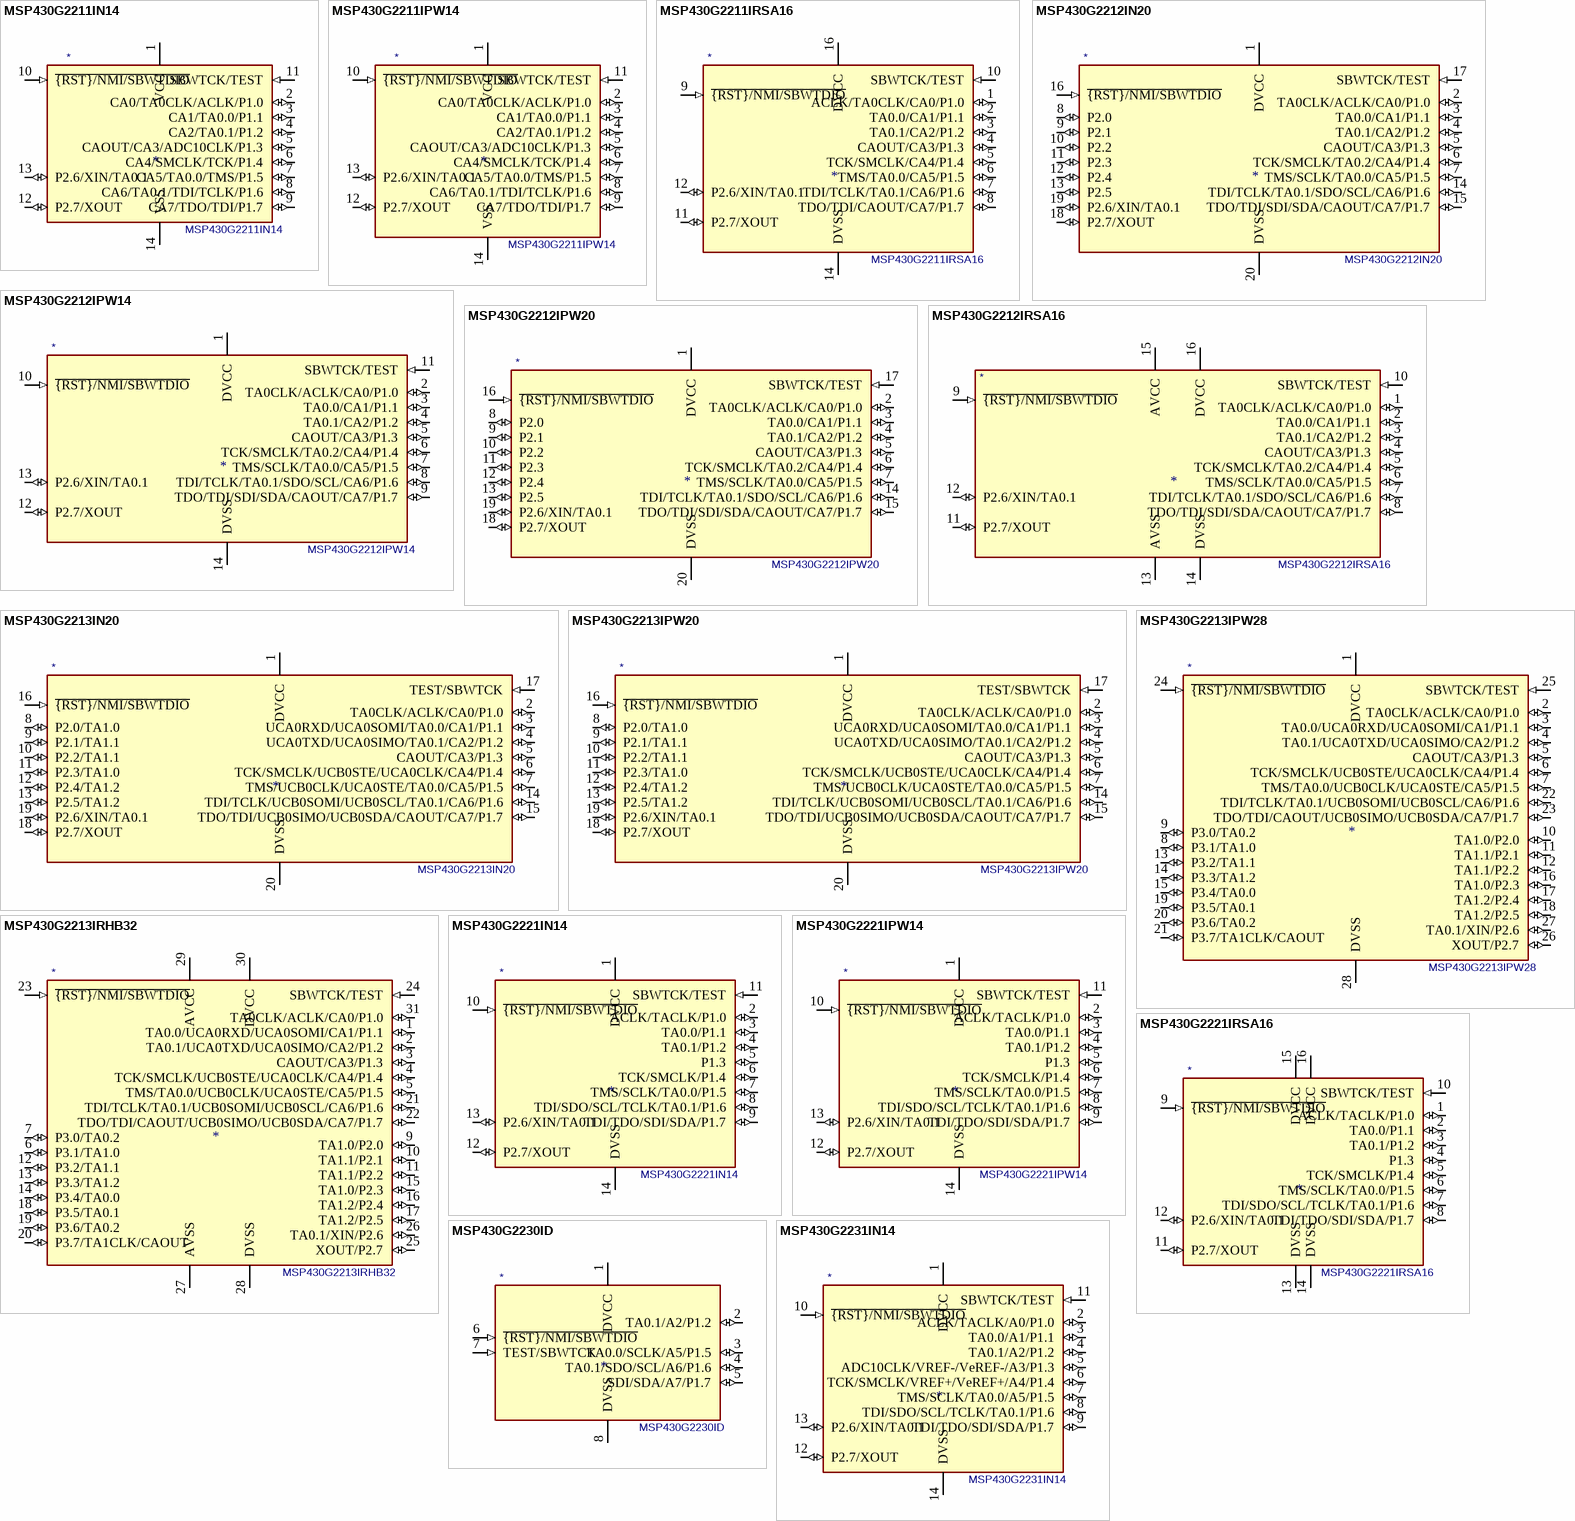
[diagram p24: symbols MSP430G2211IN14 to MSP430G2231IN14]

## MSP430G2211IN14
designator *  value MSP430G2211IN14
ki_keywords: TI MSP430 16-bit mixed signal microcontroller; ki_description: 2kB Flash, 128B RAM, DIP-14; ki_fp_filters: TSSOP*4.4x5mm*P0.65mm*; Footprint: Package_SO:TSSOP-14_4.4x5mm_P0.65mm; Supplier: http://www.ti.com/lit/ds/symlink/msp430g2211.pdf
footprint TSSOP-14_4.4x5mm_P0.65mm
pins: 1 VCC (power), 2 CA0/TA0CLK/ACLK/P1.0 (io), 3 CA1/TA0.0/P1.1 (io), 4 CA2/TA0.1/P1.2 (io), 5 CAOUT/CA3/ADC10CLK/P1.3 (io), 6 CA4/SMCLK/TCK/P1.4 (io), 7 CA5/TA0.0/TMS/P1.5 (io), 8 CA6/TA0.1/TDI/TCLK/P1.6 (io), 9 CA7/TDO/TDI/P1.7 (io), 10 ~{{RST}/NMI/SBWTDIO} (in), 11 SBWTCK/TEST (in), 12 P2.7/XOUT (io), 13 P2.6/XIN/TA0.1 (io), 14 VSS (power)

## MSP430G2211IPW14
designator *  value MSP430G2211IPW14
ki_keywords: TI MSP430 16-bit mixed signal microcontroller; ki_description: 2kB Flash, 128B RAM, TSSOP-14; ki_fp_filters: TSSOP*4.4x5mm*P0.65mm*; Footprint: Package_SO:TSSOP-14_4.4x5mm_P0.65mm; Supplier: http://www.ti.com/lit/ds/symlink/msp430g2211.pdf
footprint TSSOP-14_4.4x5mm_P0.65mm
pins: 1 VCC (power), 2 CA0/TA0CLK/ACLK/P1.0 (io), 3 CA1/TA0.0/P1.1 (io), 4 CA2/TA0.1/P1.2 (io), 5 CAOUT/CA3/ADC10CLK/P1.3 (io), 6 CA4/SMCLK/TCK/P1.4 (io), 7 CA5/TA0.0/TMS/P1.5 (io), 8 CA6/TA0.1/TDI/TCLK/P1.6 (io), 9 CA7/TDO/TDI/P1.7 (io), 10 ~{{RST}/NMI/SBWTDIO} (in), 11 SBWTCK/TEST (in), 12 P2.7/XOUT (io), 13 P2.6/XIN/TA0.1 (io), 14 VSS (power)

## MSP430G2211IRSA16
designator *  value MSP430G2211IRSA16
ki_keywords: TI MSP430 16-bit mixed signal microcontroller; ki_description: 2kB Flash, 128B RAM, QFN-16; ki_fp_filters: Texas*S?PVQFN*; Footprint: Package_DFN_QFN:Texas_S-PVQFN-N16_EP2.7x2.7mm; Supplier: http://www.ti.com/lit/ds/symlink/msp430g2211.pdf
footprint Texas_S-PVQFN-N16_EP2.7x2.7mm
pins: 1 ACLK/TA0CLK/CA0/P1.0 (io), 2 TA0.0/CA1/P1.1 (io), 3 TA0.1/CA2/P1.2 (io), 4 CAOUT/CA3/P1.3 (io), 5 TCK/SMCLK/CA4/P1.4 (io), 6 TMS/TA0.0/CA5/P1.5 (io), 7 TDI/TCLK/TA0.1/CA6/P1.6 (io), 8 TDO/TDI/CAOUT/CA7/P1.7 (io), 9 ~{{RST}/NMI/SBWTDIO} (in), 10 SBWTCK/TEST (in), 11 P2.7/XOUT (io), 12 P2.6/XIN/TA0.1 (io), 14 DVSS (power), 16 DVCC (power)

## MSP430G2212IN20
designator *  value MSP430G2212IN20
ki_keywords: TI MSP430 16-bit mixed signal microcontroller; ki_description: 2kB Flash, 256B RAM, DIP-20; ki_fp_filters: DIP*W7.62mm*; Footprint: Package_DIP:DIP-20_W7.62mm; Supplier: http://www.ti.com/lit/ds/symlink/msp430g2212.pdf
footprint DIP-20_W7.62mm
pins: 1 DVCC (power), 2 TA0CLK/ACLK/CA0/P1.0 (io), 3 TA0.0/CA1/P1.1 (io), 4 TA0.1/CA2/P1.2 (io), 5 CAOUT/CA3/P1.3 (io), 6 TCK/SMCLK/TA0.2/CA4/P1.4 (io), 7 TMS/SCLK/TA0.0/CA5/P1.5 (io), 8 P2.0 (io), 9 P2.1 (io), 10 P2.2 (io), 11 P2.3 (io), 12 P2.4 (io), 13 P2.5 (io), 14 TDI/TCLK/TA0.1/SDO/SCL/CA6/P1.6 (io), 15 TDO/TDI/SDI/SDA/CAOUT/CA7/P1.7 (io), 16 ~{{RST}/NMI/SBWTDIO} (in), 17 SBWTCK/TEST (in), 18 P2.7/XOUT (io), 19 P2.6/XIN/TA0.1 (io), 20 DVSS (power)

## MSP430G2212IPW14
designator *  value MSP430G2212IPW14
ki_keywords: TI MSP430 16-bit mixed signal microcontroller; ki_description: 2kB Flash, 256B RAM, TSSOP-14; ki_fp_filters: TSSOP*4.4x5mm*P0.65mm*; Footprint: Package_SO:TSSOP-14_4.4x5mm_P0.65mm; Supplier: http://www.ti.com/lit/ds/symlink/msp430g2212.pdf
footprint TSSOP-14_4.4x5mm_P0.65mm
pins: 1 DVCC (power), 2 TA0CLK/ACLK/CA0/P1.0 (io), 3 TA0.0/CA1/P1.1 (io), 4 TA0.1/CA2/P1.2 (io), 5 CAOUT/CA3/P1.3 (io), 6 TCK/SMCLK/TA0.2/CA4/P1.4 (io), 7 TMS/SCLK/TA0.0/CA5/P1.5 (io), 8 TDI/TCLK/TA0.1/SDO/SCL/CA6/P1.6 (io), 9 TDO/TDI/SDI/SDA/CAOUT/CA7/P1.7 (io), 10 ~{{RST}/NMI/SBWTDIO} (in), 11 SBWTCK/TEST (in), 12 P2.7/XOUT (io), 13 P2.6/XIN/TA0.1 (io), 14 DVSS (power)

## MSP430G2212IPW20
designator *  value MSP430G2212IPW20
ki_keywords: TI MSP430 16-bit mixed signal microcontroller; ki_description: 2kB Flash, 256B RAM, TSSOP-20; ki_fp_filters: TSSOP*4.4x6.5mm*P0.65mm*; Footprint: Package_SO:TSSOP-20_4.4x6.5mm_P0.65mm; Supplier: http://www.ti.com/lit/ds/symlink/msp430g2212.pdf
footprint TSSOP-20_4.4x6.5mm_P0.65mm
pins: 1 DVCC (power), 2 TA0CLK/ACLK/CA0/P1.0 (io), 3 TA0.0/CA1/P1.1 (io), 4 TA0.1/CA2/P1.2 (io), 5 CAOUT/CA3/P1.3 (io), 6 TCK/SMCLK/TA0.2/CA4/P1.4 (io), 7 TMS/SCLK/TA0.0/CA5/P1.5 (io), 8 P2.0 (io), 9 P2.1 (io), 10 P2.2 (io), 11 P2.3 (io), 12 P2.4 (io), 13 P2.5 (io), 14 TDI/TCLK/TA0.1/SDO/SCL/CA6/P1.6 (io), 15 TDO/TDI/SDI/SDA/CAOUT/CA7/P1.7 (io), 16 ~{{RST}/NMI/SBWTDIO} (in), 17 SBWTCK/TEST (in), 18 P2.7/XOUT (io), 19 P2.6/XIN/TA0.1 (io), 20 DVSS (power)

## MSP430G2212IRSA16
designator *  value MSP430G2212IRSA16
ki_keywords: TI MSP430 16-bit mixed signal microcontroller; ki_description: 2kB Flash, 256B RAM, QFN-16; ki_fp_filters: Texas*S?PVQFN*; Footprint: Package_DFN_QFN:Texas_S-PVQFN-N16_EP2.7x2.7mm; Supplier: http://www.ti.com/lit/ds/symlink/msp430g2212.pdf
footprint Texas_S-PVQFN-N16_EP2.7x2.7mm
pins: 1 TA0CLK/ACLK/CA0/P1.0 (io), 2 TA0.0/CA1/P1.1 (io), 3 TA0.1/CA2/P1.2 (io), 4 CAOUT/CA3/P1.3 (io), 5 TCK/SMCLK/TA0.2/CA4/P1.4 (io), 6 TMS/SCLK/TA0.0/CA5/P1.5 (io), 7 TDI/TCLK/TA0.1/SDO/SCL/CA6/P1.6 (io), 8 TDO/TDI/SDI/SDA/CAOUT/CA7/P1.7 (io), 9 ~{{RST}/NMI/SBWTDIO} (in), 10 SBWTCK/TEST (in), 11 P2.7/XOUT (io), 12 P2.6/XIN/TA0.1 (io), 13 AVSS (power), 14 DVSS (power), 15 AVCC (power), 16 DVCC (power)

## MSP430G2213IN20
designator *  value MSP430G2213IN20
ki_keywords: TI MSP430 16-bit mixed signal microcontroller; ki_description: 2kB Flash, 256B RAM, DIP-20; ki_fp_filters: DIP*W7.62mm*; Footprint: Package_DIP:DIP-20_W7.62mm; Supplier: http://www.ti.com/lit/ds/symlink/msp430g2213.pdf
footprint DIP-20_W7.62mm
pins: 1 DVCC (power), 2 TA0CLK/ACLK/CA0/P1.0 (io), 3 UCA0RXD/UCA0SOMI/TA0.0/CA1/P1.1 (io), 4 UCA0TXD/UCA0SIMO/TA0.1/CA2/P1.2 (io), 5 CAOUT/CA3/P1.3 (io), 6 TCK/SMCLK/UCB0STE/UCA0CLK/CA4/P1.4 (io), 7 TMS/UCB0CLK/UCA0STE/TA0.0/CA5/P1.5 (io), 8 P2.0/TA1.0 (io), 9 P2.1/TA1.1 (io), 10 P2.2/TA1.1 (io), 11 P2.3/TA1.0 (io), 12 P2.4/TA1.2 (io), 13 P2.5/TA1.2 (io), 14 TDI/TCLK/UCB0SOMI/UCB0SCL/TA0.1/CA6/P1.6 (io), 15 TDO/TDI/UCB0SIMO/UCB0SDA/CAOUT/CA7/P1.7 (io), 16 ~{{RST}/NMI/SBWTDIO} (in), 17 TEST/SBWTCK (in), 18 P2.7/XOUT (io), 19 P2.6/XIN/TA0.1 (io), 20 DVSS (power)

## MSP430G2213IPW20
designator *  value MSP430G2213IPW20
ki_keywords: TI MSP430 16-bit mixed signal microcontroller; ki_description: 2kB Flash, 256B RAM, TSSOP-20; ki_fp_filters: TSSOP*4.4x6.5mm*P0.65mm*; Footprint: Package_SO:TSSOP-20_4.4x6.5mm_P0.65mm; Supplier: http://www.ti.com/lit/ds/symlink/msp430g2213.pdf
footprint TSSOP-20_4.4x6.5mm_P0.65mm
pins: 1 DVCC (power), 2 TA0CLK/ACLK/CA0/P1.0 (io), 3 UCA0RXD/UCA0SOMI/TA0.0/CA1/P1.1 (io), 4 UCA0TXD/UCA0SIMO/TA0.1/CA2/P1.2 (io), 5 CAOUT/CA3/P1.3 (io), 6 TCK/SMCLK/UCB0STE/UCA0CLK/CA4/P1.4 (io), 7 TMS/UCB0CLK/UCA0STE/TA0.0/CA5/P1.5 (io), 8 P2.0/TA1.0 (io), 9 P2.1/TA1.1 (io), 10 P2.2/TA1.1 (io), 11 P2.3/TA1.0 (io), 12 P2.4/TA1.2 (io), 13 P2.5/TA1.2 (io), 14 TDI/TCLK/UCB0SOMI/UCB0SCL/TA0.1/CA6/P1.6 (io), 15 TDO/TDI/UCB0SIMO/UCB0SDA/CAOUT/CA7/P1.7 (io), 16 ~{{RST}/NMI/SBWTDIO} (in), 17 TEST/SBWTCK (in), 18 P2.7/XOUT (io), 19 P2.6/XIN/TA0.1 (io), 20 DVSS (power)

## MSP430G2213IPW28
designator *  value MSP430G2213IPW28
ki_keywords: TI MSP430 16-bit mixed signal microcontroller; ki_description: 2kB Flash, 256B RAM, TSSOP-28; ki_fp_filters: TSSOP*4.4x9.7mm*P0.65mm*; Footprint: Package_SO:TSSOP-28_4.4x9.7mm_P0.65mm; Supplier: http://www.ti.com/lit/ds/symlink/msp430g2213.pdf
footprint TSSOP-28_4.4x9.7mm_P0.65mm
pins: 1 DVCC (power), 2 TA0CLK/ACLK/CA0/P1.0 (io), 3 TA0.0/UCA0RXD/UCA0SOMI/CA1/P1.1 (io), 4 TA0.1/UCA0TXD/UCA0SIMO/CA2/P1.2 (io), 5 CAOUT/CA3/P1.3 (io), 6 TCK/SMCLK/UCB0STE/UCA0CLK/CA4/P1.4 (io), 7 TMS/TA0.0/UCB0CLK/UCA0STE/CA5/P1.5 (io), 8 P3.1/TA1.0 (io), 9 P3.0/TA0.2 (io), 10 TA1.0/P2.0 (io), 11 TA1.1/P2.1 (io), 12 TA1.1/P2.2 (io), 13 P3.2/TA1.1 (io), 14 P3.3/TA1.2 (io), 15 P3.4/TA0.0 (io), 16 TA1.0/P2.3 (io), 17 TA1.2/P2.4 (io), 18 TA1.2/P2.5 (io), 19 P3.5/TA0.1 (io), 20 P3.6/TA0.2 (io), 21 P3.7/TA1CLK/CAOUT (io), 22 TDI/TCLK/TA0.1/UCB0SOMI/UCB0SCL/CA6/P1.6 (io), 23 TDO/TDI/CAOUT/UCB0SIMO/UCB0SDA/CA7/P1.7 (io), 24 ~{{RST}/NMI/SBWTDIO} (in), 25 SBWTCK/TEST (in), 26 XOUT/P2.7 (io), 27 TA0.1/XIN/P2.6 (io), 28 DVSS (power)

## MSP430G2213IRHB32
designator *  value MSP430G2213IRHB32
ki_keywords: TI MSP430 16-bit mixed signal microcontroller; ki_description: 2kB Flash, 256B RAM, QFN-32; ki_fp_filters: Texas*S?PVQFN*; Footprint: Package_DFN_QFN:Texas_S-PVQFN-N32_EP3.45x3.45mm; Supplier: http://www.ti.com/lit/ds/symlink/msp430g2213.pdf
footprint Texas_S-PVQFN-N32_EP3.45x3.45mm
pins: 1 TA0.0/UCA0RXD/UCA0SOMI/CA1/P1.1 (io), 2 TA0.1/UCA0TXD/UCA0SIMO/CA2/P1.2 (io), 3 CAOUT/CA3/P1.3 (io), 4 TCK/SMCLK/UCB0STE/UCA0CLK/CA4/P1.4 (io), 5 TMS/TA0.0/UCB0CLK/UCA0STE/CA5/P1.5 (io), 6 P3.1/TA1.0 (io), 7 P3.0/TA0.2 (io), 9 TA1.0/P2.0 (io), 10 TA1.1/P2.1 (io), 11 TA1.1/P2.2 (io), 12 P3.2/TA1.1 (io), 13 P3.3/TA1.2 (io), 14 P3.4/TA0.0 (io), 15 TA1.0/P2.3 (io), 16 TA1.2/P2.4 (io), 17 TA1.2/P2.5 (io), 18 P3.5/TA0.1 (io), 19 P3.6/TA0.2 (io), 20 P3.7/TA1CLK/CAOUT (io), 21 TDI/TCLK/TA0.1/UCB0SOMI/UCB0SCL/CA6/P1.6 (io), 22 TDO/TDI/CAOUT/UCB0SIMO/UCB0SDA/CA7/P1.7 (io), 23 ~{{RST}/NMI/SBWTDIO} (in), 24 SBWTCK/TEST (in), 25 XOUT/P2.7 (io), 26 TA0.1/XIN/P2.6 (io), 27 AVSS (power), 28 DVSS (power), 29 AVCC (power), 30 DVCC (power), 31 TA0CLK/ACLK/CA0/P1.0 (io)

## MSP430G2221IN14
designator *  value MSP430G2221IN14
ki_keywords: TI MSP430 16-bit mixed signal microcontroller; ki_description: 2kB Flash, 128B RAM, DIP-14; ki_fp_filters: TSSOP*4.4x5mm*P0.65mm*; Footprint: Package_SO:TSSOP-14_4.4x5mm_P0.65mm; Supplier: http://www.ti.com/lit/ds/symlink/msp430g2221.pdf
footprint TSSOP-14_4.4x5mm_P0.65mm
pins: 1 DVCC (power), 2 ACLK/TACLK/P1.0 (io), 3 TA0.0/P1.1 (io), 4 TA0.1/P1.2 (io), 5 P1.3 (io), 6 TCK/SMCLK/P1.4 (io), 7 TMS/SCLK/TA0.0/P1.5 (io), 8 TDI/SDO/SCL/TCLK/TA0.1/P1.6 (io), 9 TDI/TDO/SDI/SDA/P1.7 (io), 10 ~{{RST}/NMI/SBWTDIO} (in), 11 SBWTCK/TEST (in), 12 P2.7/XOUT (io), 13 P2.6/XIN/TA0.1 (io), 14 DVSS (power)

## MSP430G2221IPW14
designator *  value MSP430G2221IPW14
ki_keywords: TI MSP430 16-bit mixed signal microcontroller; ki_description: 2kB Flash, 128B RAM, TSSOP-14; ki_fp_filters: TSSOP*4.4x5mm*P0.65mm*; Footprint: Package_SO:TSSOP-14_4.4x5mm_P0.65mm; Supplier: http://www.ti.com/lit/ds/symlink/msp430g2221.pdf
footprint TSSOP-14_4.4x5mm_P0.65mm
pins: 1 DVCC (power), 2 ACLK/TACLK/P1.0 (io), 3 TA0.0/P1.1 (io), 4 TA0.1/P1.2 (io), 5 P1.3 (io), 6 TCK/SMCLK/P1.4 (io), 7 TMS/SCLK/TA0.0/P1.5 (io), 8 TDI/SDO/SCL/TCLK/TA0.1/P1.6 (io), 9 TDI/TDO/SDI/SDA/P1.7 (io), 10 ~{{RST}/NMI/SBWTDIO} (in), 11 SBWTCK/TEST (in), 12 P2.7/XOUT (io), 13 P2.6/XIN/TA0.1 (io), 14 DVSS (power)

## MSP430G2221IRSA16
designator *  value MSP430G2221IRSA16
ki_keywords: TI MSP430 16-bit mixed signal microcontroller; ki_description: 2kB Flash, 128B RAM, QFN-16; ki_fp_filters: Texas*S?PVQFN*; Footprint: Package_DFN_QFN:Texas_S-PVQFN-N16_EP2.7x2.7mm; Supplier: http://www.ti.com/lit/ds/symlink/msp430g2221.pdf
footprint Texas_S-PVQFN-N16_EP2.7x2.7mm
pins: 1 ACLK/TACLK/P1.0 (io), 2 TA0.0/P1.1 (io), 3 TA0.1/P1.2 (io), 4 P1.3 (io), 5 TCK/SMCLK/P1.4 (io), 6 TMS/SCLK/TA0.0/P1.5 (io), 7 TDI/SDO/SCL/TCLK/TA0.1/P1.6 (io), 8 TDI/TDO/SDI/SDA/P1.7 (io), 9 ~{{RST}/NMI/SBWTDIO} (in), 10 SBWTCK/TEST (in), 11 P2.7/XOUT (io), 12 P2.6/XIN/TA0.1 (io), 13 DVSS (power), 14 DVSS (power), 15 DVCC (power), 16 DVCC (power)

## MSP430G2230ID
designator *  value MSP430G2230ID
ki_keywords: TI MSP430 16-bit mixed signal microcontroller; ki_description: 2kB + 256B Flash, 128B RAM, SOIC-8; ki_fp_filters: SOIC*3.9x4.9mm*P1.27mm*; Footprint: Package_SO:SOIC-8_3.9x4.9mm_P1.27mm; Supplier: http://www.ti.com/lit/ds/symlink/msp430g2230.pdf
footprint SOIC-8_3.9x4.9mm_P1.27mm
pins: 1 DVCC (power), 2 TA0.1/A2/P1.2 (io), 3 TA0.0/SCLK/A5/P1.5 (io), 4 TA0.1/SDO/SCL/A6/P1.6 (io), 5 SDI/SDA/A7/P1.7 (io), 6 ~{{RST}/NMI/SBWTDIO} (in), 7 TEST/SBWTCK (in), 8 DVSS (power)

## MSP430G2231IN14
designator *  value MSP430G2231IN14
ki_keywords: TI MSP430 16-bit mixed signal microcontroller; ki_description: 2kB Flash, 128B RAM, DIP-14; ki_fp_filters: TSSOP*4.4x5mm*P0.65mm*; Footprint: Package_SO:TSSOP-14_4.4x5mm_P0.65mm; Supplier: http://www.ti.com/lit/ds/symlink/msp430g2231.pdf
footprint TSSOP-14_4.4x5mm_P0.65mm
pins: 1 DVCC (power), 2 ACLK/TACLK/A0/P1.0 (io), 3 TA0.0/A1/P1.1 (io), 4 TA0.1/A2/P1.2 (io), 5 ADC10CLK/VREF-/VeREF-/A3/P1.3 (io), 6 TCK/SMCLK/VREF+/VeREF+/A4/P1.4 (io), 7 TMS/SCLK/TA0.0/A5/P1.5 (io), 8 TDI/SDO/SCL/TCLK/TA0.1/P1.6 (io), 9 TDI/TDO/SDI/SDA/P1.7 (io), 10 ~{{RST}/NMI/SBWTDIO} (in), 11 SBWTCK/TEST (in), 12 P2.7/XOUT (io), 13 P2.6/XIN/TA0.1 (io), 14 DVSS (power)

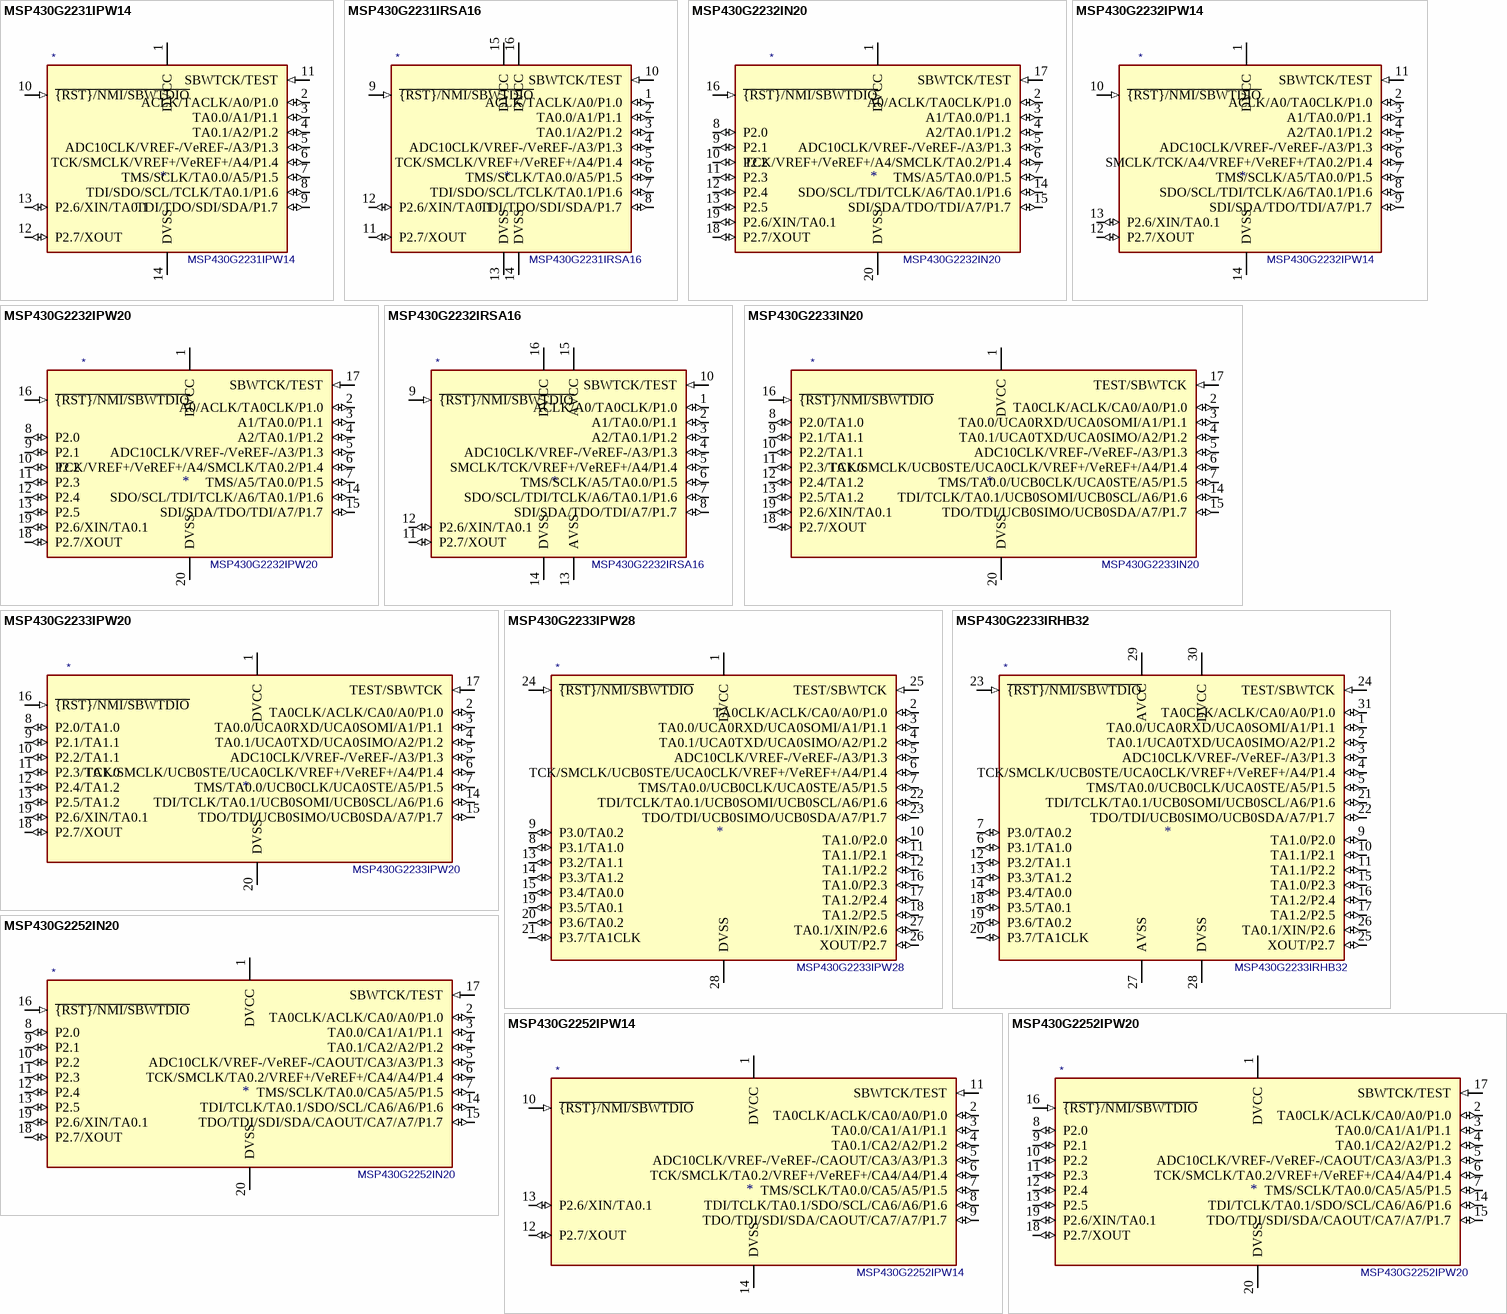
[diagram p25: symbols MSP430G2231IPW14 to MSP430G2252IPW20]